# Altium integrated library XMOS.IntLib: 42 symbols (part 1 of 3)
Pins are listed as number, name and electrical type; pins without a type are passive.

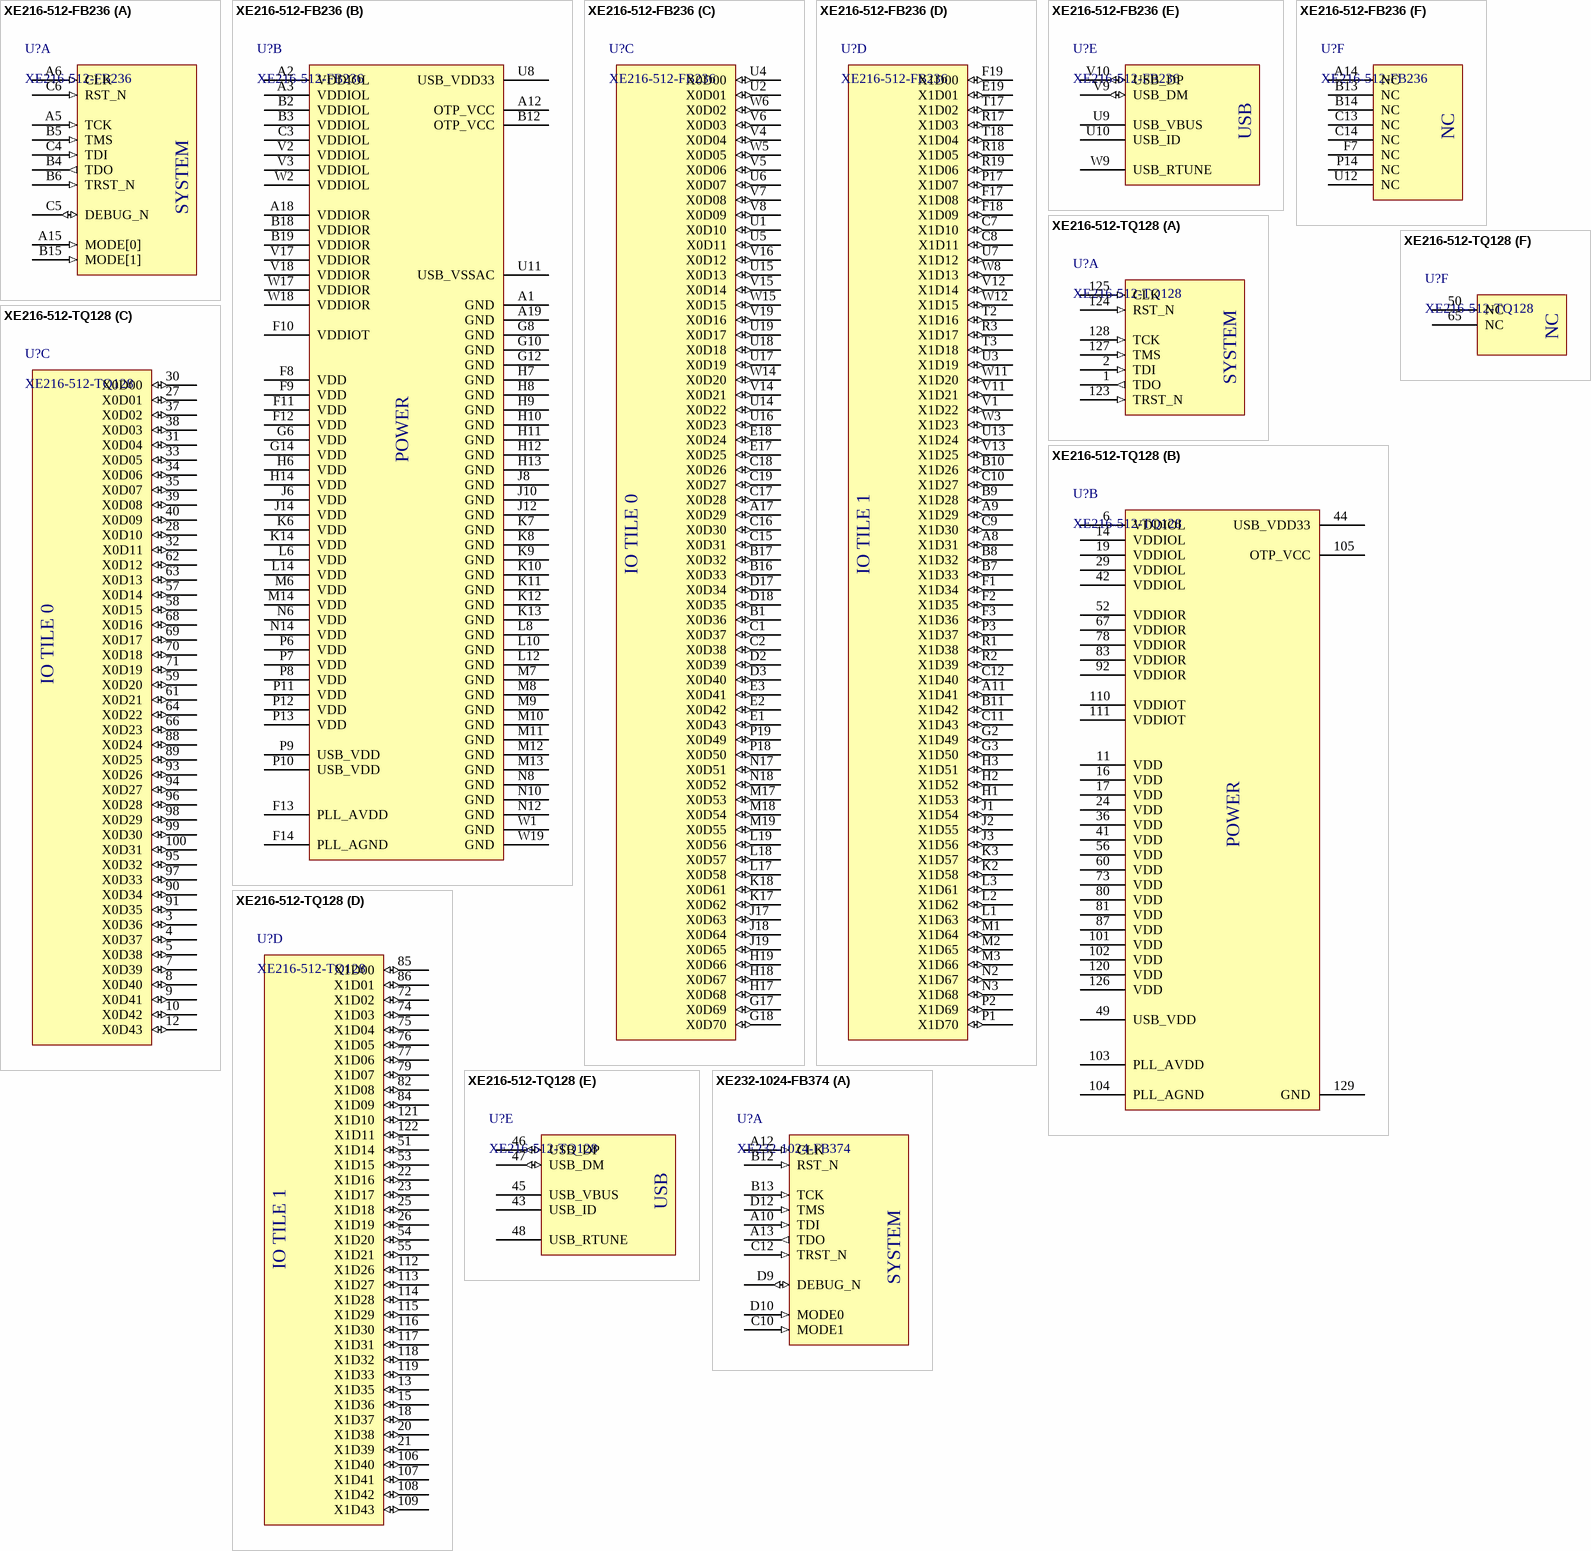
[diagram p0: symbols XE216-512-FB236 to XE232-1024-FB374]

## XE216-512-FB236
designator U?
xCORE Multicore Microcontroller, xCORE-200, USB, RGMII, Dual Tile, 16 Cores, 500MHz, 236BGA; Manufacturer: XMOS; Manufacturer Part Number: XE216-512-FB236; VALUE: XE216-512-FB236
footprint FB236 (BGA, 236-Leads, Body 10.00x10.00mmx1.28mm, Pitch 0.50mm)
part A pins: A5 TCK (in), A6 CLK (in), A15 MODE[0] (in), B4 TDO (out), B5 TMS (in), B6 TRST_N (in), B15 MODE[1] (in), C4 TDI (in), C5 DEBUG_N (io), C6 RST_N (in)
part B pins: A1 GND (power), A2 VDDIOL (power), A3 VDDIOL (power), A12 OTP_VCC (power), A18 VDDIOR (power), A19 GND (power), B2 VDDIOL (power), B3 VDDIOL (power), B12 OTP_VCC (power), B18 VDDIOR (power), B19 VDDIOR (power), C3 VDDIOL (power), F8 VDD (power), F9 VDD (power), F10 VDDIOT (power), F11 VDD (power), F12 VDD (power), F13 PLL_AVDD (power), F14 PLL_AGND (power), G6 VDD (power), G8 GND (power), G10 GND (power), G12 GND (power), G14 VDD (power), H6 VDD (power), H7 GND (power), H8 GND (power), H9 GND (power), H10 GND (power), H11 GND (power), H12 GND (power), H13 GND (power), H14 VDD (power), J6 VDD (power), J8 GND (power), J10 GND (power), J12 GND (power), J14 VDD (power), K6 VDD (power), K7 GND (power), K8 GND (power), K9 GND (power), K10 GND (power), K11 GND (power), K12 GND (power), K13 GND (power), K14 VDD (power), L6 VDD (power), L8 GND (power), L10 GND (power), L12 GND (power), L14 VDD (power), M6 VDD (power), M7 GND (power), M8 GND (power), M9 GND (power), M10 GND (power), M11 GND (power), M12 GND (power), M13 GND (power), M14 VDD (power), N6 VDD (power), N8 GND (power), N10 GND (power), N12 GND (power), N14 VDD (power), P6 VDD (power), P7 VDD (power), P8 VDD (power), P9 USB_VDD (power), P10 USB_VDD (power), P11 VDD (power), P12 VDD (power), P13 VDD (power), U8 USB_VDD33 (power), U11 USB_VSSAC (power), V2 VDDIOL (power), V3 VDDIOL (power), V17 VDDIOR (power), V18 VDDIOR (power), W1 GND (power), W2 VDDIOL (power), W17 VDDIOR (power), W18 VDDIOR (power), W19 GND (power)
part C pins: A17 X0D29 (io), B1 X0D36 (io), B16 X0D33 (io), B17 X0D32 (io), C1 X0D37 (io), C2 X0D38 (io), C15 X0D31 (io), C16 X0D30 (io), C17 X0D28 (io), C18 X0D26 (io), C19 X0D27 (io), D2 X0D39 (io), D3 X0D40 (io), D17 X0D34 (io), D18 X0D35 (io), E1 X0D43 (io), E2 X0D42 (io), E3 X0D41 (io), E17 X0D25 (io), E18 X0D24 (io), G17 X0D69 (io), G18 X0D70 (io), H17 X0D68 (io), H18 X0D67 (io), H19 X0D66 (io), J17 X0D63 (io), J18 X0D64 (io), J19 X0D65 (io), K17 X0D62 (io), K18 X0D61 (io), L17 X0D58 (io), L18 X0D57 (io), L19 X0D56 (io), M17 X0D53 (io), M18 X0D54 (io), M19 X0D55 (io), N17 X0D51 (io), N18 X0D52 (io), P18 X0D50 (io), P19 X0D49 (io), U1 X0D10 (io), U2 X0D01 (io), U4 X0D00 (io), U5 X0D11 (io), U6 X0D07 (io), U14 X0D22 (io), U15 X0D13 (io), U16 X0D23 (io), U17 X0D19 (io), U18 X0D18 (io), U19 X0D17 (io), V4 X0D04 (io), V5 X0D06 (io), V6 X0D03 (io), V7 X0D08 (io), V8 X0D09 (io), V14 X0D21 (io), V15 X0D14 (io), V16 X0D12 (io), V19 X0D16 (io), W5 X0D05 (io), W6 X0D02 (io), W14 X0D20 (io), W15 X0D15 (io)
part D pins: A8 X1D31 (io), A9 X1D29 (io), A11 X1D41 (io), B7 X1D33 (io), B8 X1D32 (io), B9 X1D28 (io), B10 X1D26 (io), B11 X1D42 (io), C7 X1D10 (io), C8 X1D11 (io), C9 X1D30 (io), C10 X1D27 (io), C11 X1D43 (io), C12 X1D40 (io), E19 X1D01 (io), F1 X1D34 (io), F2 X1D35 (io), F3 X1D36 (io), F17 X1D08 (io), F18 X1D09 (io), F19 X1D00 (io), G2 X1D49 (io), G3 X1D50 (io), H1 X1D53 (io), H2 X1D52 (io), H3 X1D51 (io), J1 X1D54 (io), J2 X1D55 (io), J3 X1D56 (io), K2 X1D58 (io), K3 X1D57 (io), L1 X1D63 (io), L2 X1D62 (io), L3 X1D61 (io), M1 X1D64 (io), M2 X1D65 (io), M3 X1D66 (io), N2 X1D67 (io), N3 X1D68 (io), P1 X1D70 (io), P2 X1D69 (io), P3 X1D37 (io), P17 X1D07 (io), R1 X1D38 (io), R2 X1D39 (io), R3 X1D17 (io), R17 X1D03 (io), R18 X1D05 (io), R19 X1D06 (io), T2 X1D16 (io), T3 X1D18 (io), T17 X1D02 (io), T18 X1D04 (io), U3 X1D19 (io), U7 X1D12 (io), U13 X1D24 (io), V1 X1D22 (io), V11 X1D21 (io), V12 X1D14 (io), V13 X1D25 (io), W3 X1D23 (io), W8 X1D13 (io), W11 X1D20 (io), W12 X1D15 (io)
part E pins: U9 USB_VBUS, U10 USB_ID, V9 USB_DM (io), V10 USB_DP (io), W9 USB_RTUNE
part F pins: A14 NC, B13 NC, B14 NC, C13 NC, C14 NC, F7 NC, P14 NC, U12 NC
part A text: SYSTEM
part B text: POWER
part C text: IO TILE 0
part D text: IO TILE 1
part E text: USB

## XE216-512-TQ128
designator U?
xCORE Multicore Microcontroller, xCORE-200, USB, RGMII, Dual Tile, 16 Cores, 500MHz, 128TQFP; Manufacturer: XMOS; Manufacturer Part Number: XE216-512-TQ128; Value: XE216-512-TQ128
footprint TQ128 (TSQFP, 128-Leads, Body 14.00x14.00mm, Pitch 0.40mm, Thermal Pad 5.00x5.00mm, IPC Medium Density)
footprint TQ128-L (TSQFP, 128-Leads, Body 14.00x14.00mm, Pitch 0.40mm, Thermal Pad 5.00x5.00mm, IPC High Density)
footprint TQ128-M (TSQFP, 128-Leads, Body 14.00x14.00mm, Pitch 0.40mm, Thermal Pad 5.00x5.00mm, IPC Low Density)
part A pins: 1 TDO (out), 2 TDI (in), 123 TRST_N (in), 124 RST_N (in), 125 CLK (in), 127 TMS (in), 128 TCK (in)
part B pins: 6 VDDIOL (power), 11 VDD (power), 14 VDDIOL (power), 16 VDD (power), 17 VDD (power), 19 VDDIOL (power), 24 VDD (power), 29 VDDIOL (power), 36 VDD (power), 41 VDD (power), 42 VDDIOL (power), 44 USB_VDD33 (power), 49 USB_VDD (power), 52 VDDIOR (power), 56 VDD (power), 60 VDD (power), 67 VDDIOR (power), 73 VDD (power), 78 VDDIOR (power), 80 VDD (power), 81 VDD (power), 83 VDDIOR (power), 87 VDD (power), 92 VDDIOR (power), 101 VDD (power), 102 VDD (power), 103 PLL_AVDD (power), 104 PLL_AGND (power), 105 OTP_VCC (power), 110 VDDIOT (power), 111 VDDIOT (power), 120 VDD (power), 126 VDD (power), 129 GND (power)
part C pins: 3 X0D36 (io), 4 X0D37 (io), 5 X0D38 (io), 7 X0D39 (io), 8 X0D40 (io), 9 X0D41 (io), 10 X0D42 (io), 12 X0D43 (io), 27 X0D01 (io), 28 X0D10 (io), 30 X0D00 (io), 31 X0D04 (io), 32 X0D11 (io), 33 X0D05 (io), 34 X0D06 (io), 35 X0D07 (io), 37 X0D02 (io), 38 X0D03 (io), 39 X0D08 (io), 40 X0D09 (io), 57 X0D14 (io), 58 X0D15 (io), 59 X0D20 (io), 61 X0D21 (io), 62 X0D12 (io), 63 X0D13 (io), 64 X0D22 (io), 66 X0D23 (io), 68 X0D16 (io), 69 X0D17 (io), 70 X0D18 (io), 71 X0D19 (io), 88 X0D24 (io), 89 X0D25 (io), 90 X0D34 (io), 91 X0D35 (io), 93 X0D26 (io), 94 X0D27 (io), 95 X0D32 (io), 96 X0D28 (io), 97 X0D33 (io), 98 X0D29 (io), 99 X0D30 (io), 100 X0D31 (io)
part D pins: 13 X1D35 (io), 15 X1D36 (io), 18 X1D37 (io), 20 X1D38 (io), 21 X1D39 (io), 22 X1D16 (io), 23 X1D17 (io), 25 X1D18 (io), 26 X1D19 (io), 51 X1D14 (io), 53 X1D15 (io), 54 X1D20 (io), 55 X1D21 (io), 72 X1D02 (io), 74 X1D03 (io), 75 X1D04 (io), 76 X1D05 (io), 77 X1D06 (io), 79 X1D07 (io), 82 X1D08 (io), 84 X1D09 (io), 85 X1D00 (io), 86 X1D01 (io), 106 X1D40 (io), 107 X1D41 (io), 108 X1D42 (io), 109 X1D43 (io), 112 X1D26 (io), 113 X1D27 (io), 114 X1D28 (io), 115 X1D29 (io), 116 X1D30 (io), 117 X1D31 (io), 118 X1D32 (io), 119 X1D33 (io), 121 X1D10 (io), 122 X1D11 (io)
part E pins: 43 USB_ID, 45 USB_VBUS, 46 USB_DP (io), 47 USB_DM (io), 48 USB_RTUNE
part F pins: 50 NC, 65 NC
part A text: SYSTEM
part B text: POWER
part C text: IO TILE 0
part D text: IO TILE 1
part E text: USB

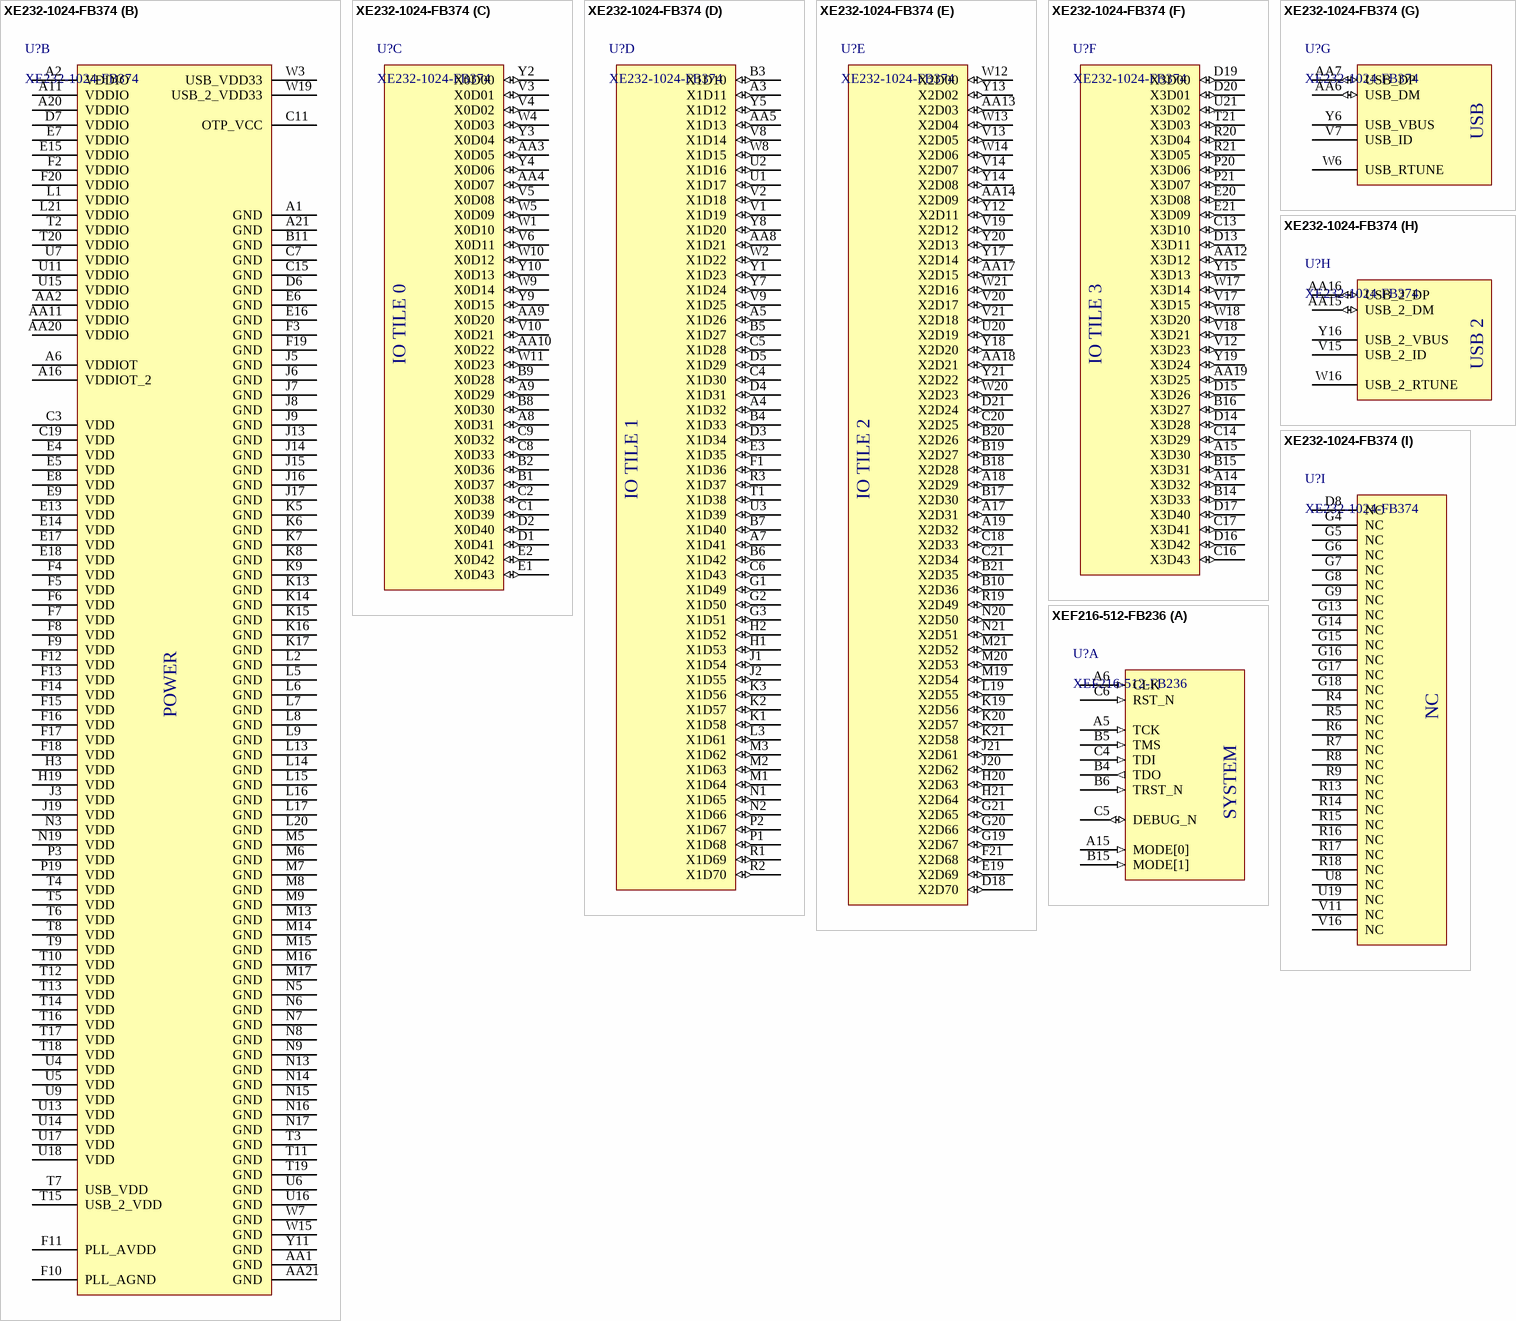
[diagram p1: symbols XE232-1024-FB374 to XEF216-512-FB236]

## XE232-1024-FB374
designator U?
xCORE Multicore Microcontroller, xCORE-200, USB, RGMII, Quad Tile, 32 Cores, 500MHz, 374FBGA; Manufacturer: XMOS; Manufacturer Part Number: XE232-1024-FB374; Value: XE232-1024-FB374
footprint FB374 (BGA, 374-Leads, Body 18.00x17.90mmx1.36mm, Pitch 0.80mm)
part A pins: A10 TDI (in), A12 CLK (in), A13 TDO (out), B12 RST_N (in), B13 TCK (in), C10 MODE1 (in), C12 TRST_N (in), D9 DEBUG_N (io), D10 MODE0 (in), D12 TMS (in)
part B pins: A1 GND (power), A2 VDDIO (power), A6 VDDIOT (power), A11 VDDIO (power), A16 VDDIOT_2 (power), A20 VDDIO (power), A21 GND (power), AA1 GND (power), AA2 VDDIO (power), AA11 VDDIO (power), AA20 VDDIO (power), AA21 GND (power), B11 GND (power), C3 VDD (power), C7 GND (power), C11 OTP_VCC (power), C15 GND (power), C19 VDD (power), D6 GND (power), D7 VDDIO (power), E4 VDD (power), E5 VDD (power), E6 GND (power), E7 VDDIO (power), E8 VDD (power), E9 VDD (power), E13 VDD (power), E14 VDD (power), E15 VDDIO (power), E16 GND (power), E17 VDD (power), E18 VDD (power), F2 VDDIO (power), F3 GND (power), F4 VDD (power), F5 VDD (power), F6 VDD (power), F7 VDD (power), F8 VDD (power), F9 VDD (power), F10 PLL_AGND (power), F11 PLL_AVDD (power), F12 VDD (power), F13 VDD (power), F14 VDD (power), F15 VDD (power), F16 VDD (power), F17 VDD (power), F18 VDD (power), F19 GND (power), F20 VDDIO (power), H3 VDD (power), H19 VDD (power), J3 VDD (power), J5 GND (power), J6 GND (power), J7 GND (power), J8 GND (power), J9 GND (power), J13 GND (power), J14 GND (power), J15 GND (power), J16 GND (power), J17 GND (power), J19 VDD (power), K5 GND (power), K6 GND (power), K7 GND (power), K8 GND (power), K9 GND (power), K13 GND (power), K14 GND (power), K15 GND (power), K16 GND (power), K17 GND (power), L1 VDDIO (power), L2 GND (power), L5 GND (power), L6 GND (power), L7 GND (power), L8 GND (power), L9 GND (power), L13 GND (power), L14 GND (power), L15 GND (power), L16 GND (power), L17 GND (power), L20 GND (power), L21 VDDIO (power), M5 GND (power), M6 GND (power), M7 GND (power), M8 GND (power), M9 GND (power), M13 GND (power), M14 GND (power), M15 GND (power), M16 GND (power), M17 GND (power), N3 VDD (power), N5 GND (power), N6 GND (power), N7 GND (power), N8 GND (power), N9 GND (power), N13 GND (power), N14 GND (power), N15 GND (power), N16 GND (power), N17 GND (power), N19 VDD (power), P3 VDD (power), P19 VDD (power), T2 VDDIO (power), T3 GND (power), T4 VDD (power), T5 VDD (power), T6 VDD (power), T7 USB_VDD (power), T8 VDD (power), T9 VDD (power), T10 VDD (power), T11 GND (power), T12 VDD (power), T13 VDD (power), T14 VDD (power), T15 USB_2_VDD (power), T16 VDD (power), T17 VDD (power), T18 VDD (power), T19 GND (power), T20 VDDIO (power), U4 VDD (power), U5 VDD (power), U6 GND (power), U7 VDDIO (power), U9 VDD (power), U11 VDDIO (power), U13 VDD (power), U14 VDD (power), U15 VDDIO (power), U16 GND (power), U17 VDD (power), U18 VDD (power), W3 USB_VDD33 (power), W7 GND (power), W15 GND (power), W19 USB_2_VDD33 (power), Y11 GND (power)
part C pins: A8 X0D31 (io), A9 X0D29 (io), AA3 X0D05 (io), AA4 X0D07 (io), AA9 X0D20 (io), AA10 X0D22 (io), B1 X0D37 (io), B2 X0D36 (io), B8 X0D30 (io), B9 X0D28 (io), C1 X0D39 (io), C2 X0D38 (io), C8 X0D33 (io), C9 X0D32 (io), D1 X0D41 (io), D2 X0D40 (io), E1 X0D43 (io), E2 X0D42 (io), V3 X0D01 (io), V4 X0D02 (io), V5 X0D08 (io), V6 X0D11 (io), V10 X0D21 (io), W1 X0D10 (io), W4 X0D03 (io), W5 X0D09 (io), W9 X0D14 (io), W10 X0D12 (io), W11 X0D23 (io), Y2 X0D00 (io), Y3 X0D04 (io), Y4 X0D06 (io), Y9 X0D15 (io), Y10 X0D13 (io)
part D pins: A3 X1D11 (io), A4 X1D32 (io), A5 X1D26 (io), A7 X1D41 (io), AA5 X1D13 (io), AA8 X1D21 (io), B3 X1D10 (io), B4 X1D33 (io), B5 X1D27 (io), B6 X1D42 (io), B7 X1D40 (io), C4 X1D30 (io), C5 X1D28 (io), C6 X1D43 (io), D3 X1D34 (io), D4 X1D31 (io), D5 X1D29 (io), E3 X1D35 (io), F1 X1D36 (io), G1 X1D49 (io), G2 X1D50 (io), G3 X1D51 (io), H1 X1D53 (io), H2 X1D52 (io), J1 X1D54 (io), J2 X1D55 (io), K1 X1D58 (io), K2 X1D57 (io), K3 X1D56 (io), L3 X1D61 (io), M1 X1D64 (io), M2 X1D63 (io), M3 X1D62 (io), N1 X1D65 (io), N2 X1D66 (io), P1 X1D68 (io), P2 X1D67 (io), R1 X1D69 (io), R2 X1D70 (io), R3 X1D37 (io), T1 X1D38 (io), U1 X1D17 (io), U2 X1D16 (io), U3 X1D39 (io), V1 X1D19 (io), V2 X1D18 (io), V8 X1D14 (io), V9 X1D25 (io), W2 X1D22 (io), W8 X1D15 (io), Y1 X1D23 (io), Y5 X1D12 (io), Y7 X1D24 (io), Y8 X1D20 (io)
part E pins: A17 X2D31 (io), A18 X2D29 (io), A19 X2D32 (io), AA13 X2D03 (io), AA14 X2D09 (io), AA17 X2D15 (io), AA18 X2D21 (io), B10 X2D36 (io), B17 X2D30 (io), B18 X2D28 (io), B19 X2D27 (io), B20 X2D26 (io), B21 X2D35 (io), C18 X2D33 (io), C20 X2D25 (io), C21 X2D34 (io), D18 X2D70 (io), D21 X2D24 (io), E19 X2D69 (io), F21 X2D68 (io), G19 X2D67 (io), G20 X2D66 (io), G21 X2D65 (io), H20 X2D63 (io), H21 X2D64 (io), J20 X2D62 (io), J21 X2D61 (io), K19 X2D56 (io), K20 X2D57 (io), K21 X2D58 (io), L19 X2D55 (io), M19 X2D54 (io), M20 X2D53 (io), M21 X2D52 (io), N20 X2D50 (io), N21 X2D51 (io), R19 X2D49 (io), U20 X2D19 (io), V13 X2D05 (io), V14 X2D07 (io), V19 X2D12 (io), V20 X2D17 (io), V21 X2D18 (io), W12 X2D00 (io), W13 X2D04 (io), W14 X2D06 (io), W20 X2D23 (io), W21 X2D16 (io), Y12 X2D11 (io), Y13 X2D02 (io), Y14 X2D08 (io), Y17 X2D14 (io), Y18 X2D20 (io), Y20 X2D13 (io), Y21 X2D22 (io)
part F pins: A14 X3D32 (io), A15 X3D30 (io), AA12 X3D12 (io), AA19 X3D25 (io), B14 X3D33 (io), B15 X3D31 (io), B16 X3D27 (io), C13 X3D10 (io), C14 X3D29 (io), C16 X3D43 (io), C17 X3D41 (io), D13 X3D11 (io), D14 X3D28 (io), D15 X3D26 (io), D16 X3D42 (io), D17 X3D40 (io), D19 X3D00 (io), D20 X3D01 (io), E20 X3D08 (io), E21 X3D09 (io), P20 X3D06 (io), P21 X3D07 (io), R20 X3D04 (io), R21 X3D05 (io), T21 X3D03 (io), U21 X3D02 (io), V12 X3D23 (io), V17 X3D15 (io), V18 X3D21 (io), W17 X3D14 (io), W18 X3D20 (io), Y15 X3D13 (io), Y19 X3D24 (io)
part G pins: AA6 USB_DM (io), AA7 USB_DP (io), V7 USB_ID, W6 USB_RTUNE, Y6 USB_VBUS
part H pins: AA15 USB_2_DM (io), AA16 USB_2_DP (io), V15 USB_2_ID, W16 USB_2_RTUNE, Y16 USB_2_VBUS
part I pins: D8 NC, G4 NC, G5 NC, G6 NC, G7 NC, G8 NC, G9 NC, G13 NC, G14 NC, G15 NC, G16 NC, G17 NC, G18 NC, R4 NC, R5 NC, R6 NC, R7 NC, R8 NC, R9 NC, R13 NC, R14 NC, R15 NC, R16 NC, R17 NC, R18 NC, U8 NC, U19 NC, V11 NC, V16 NC
part A text: SYSTEM
part B text: POWER
part C text: IO TILE 0
part D text: IO TILE 1
part E text: IO TILE 2
part F text: IO TILE 3
part G text: USB
part H text: USB 2

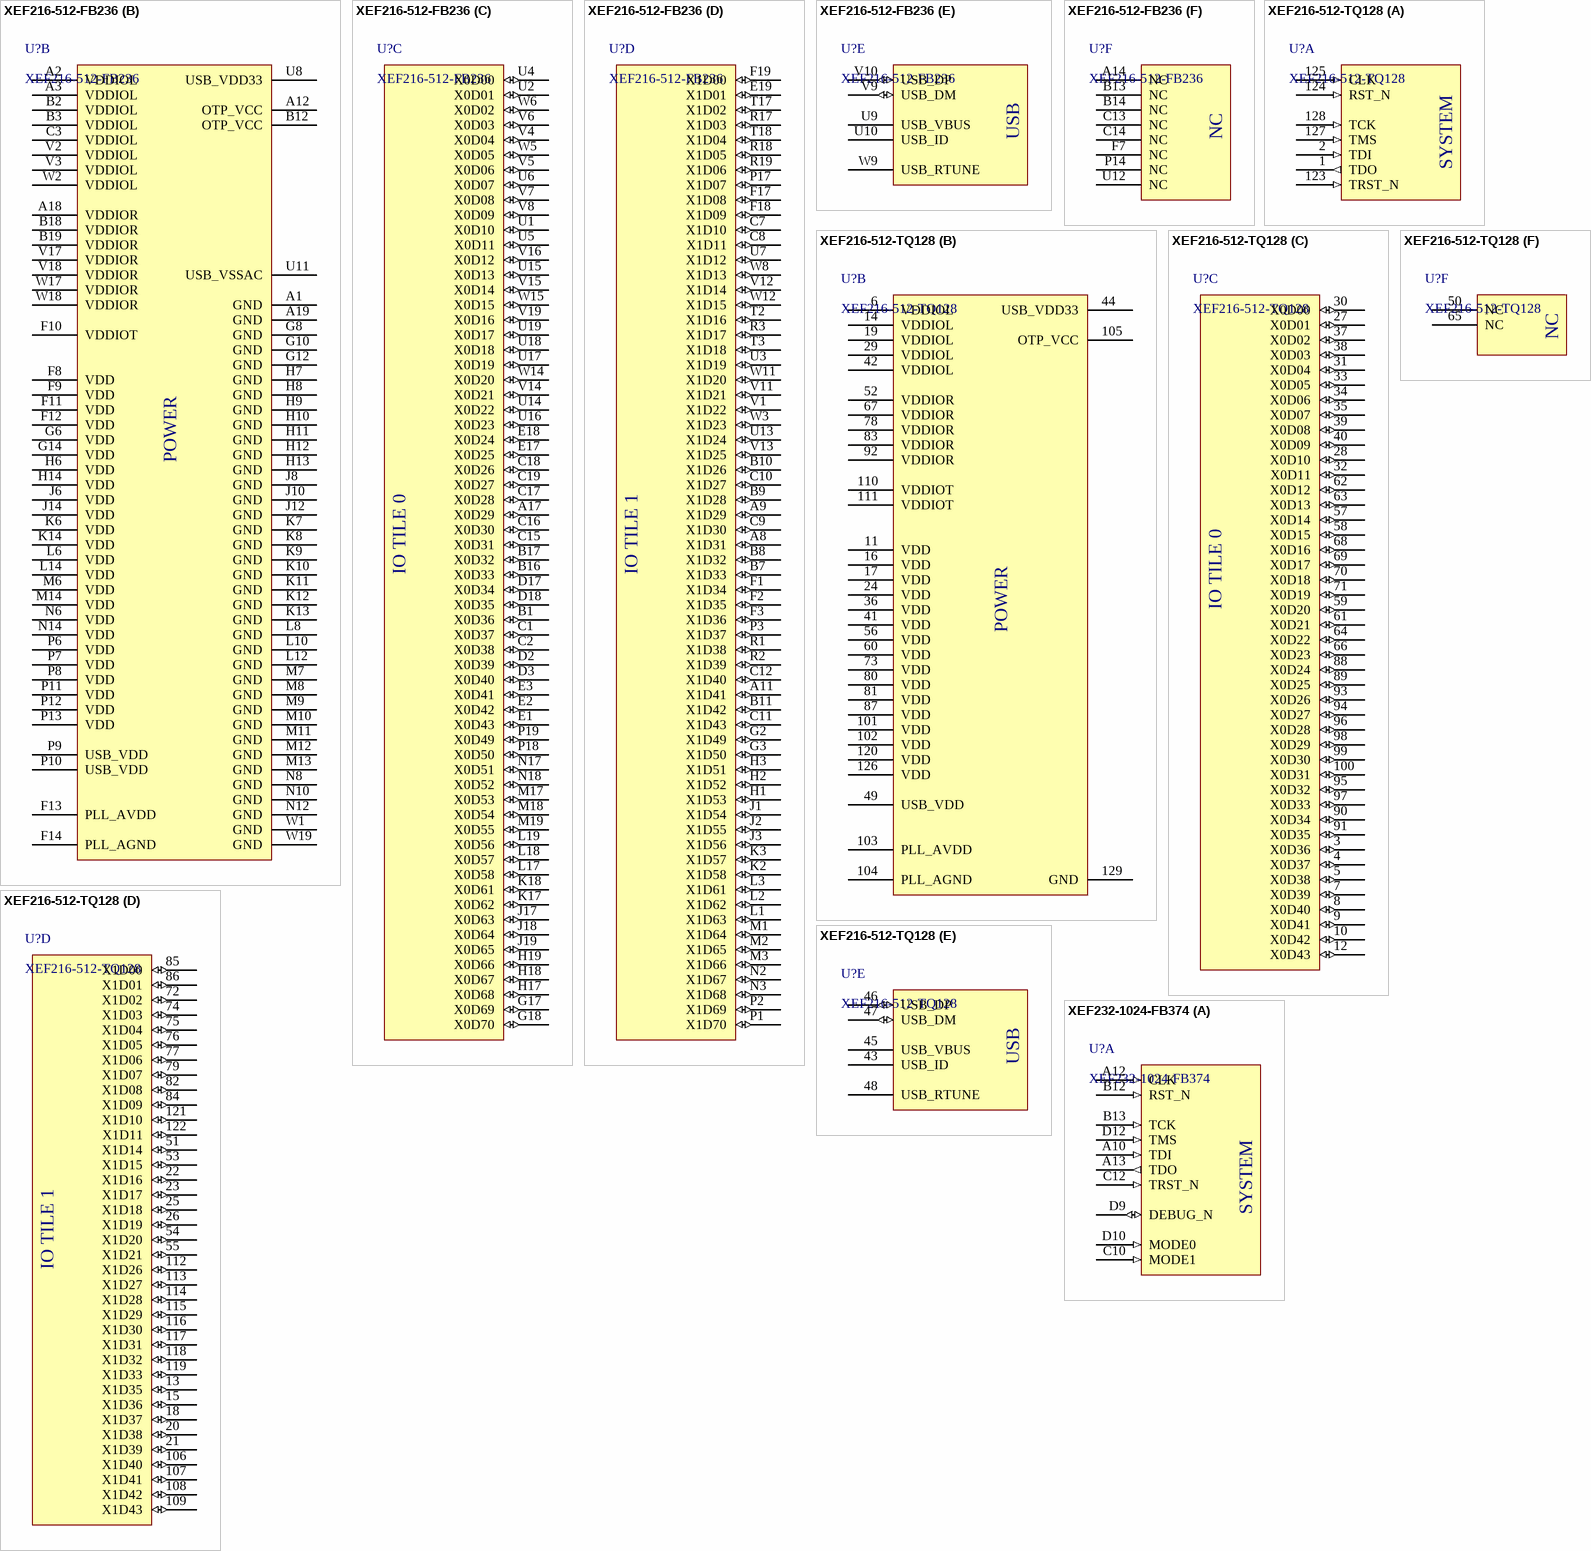
[diagram p2: symbols XEF216-512-FB236 to XEF232-1024-FB374]

## XEF216-512-FB236
designator U?
xCORE Multicore Microcontroller, xCORE-200, USB, RGMII, Dual Tile, 16 Cores, 500MHz, 236BGA; Manufacturer: XMOS; Manufacturer Part Number: XEF216-512-FB236; VALUE: XEF216-512-FB236
footprint FB236 (BGA, 236-Leads, Body 10.00x10.00mmx1.28mm, Pitch 0.50mm)
part A pins: A5 TCK (in), A6 CLK (in), A15 MODE[0] (in), B4 TDO (out), B5 TMS (in), B6 TRST_N (in), B15 MODE[1] (in), C4 TDI (in), C5 DEBUG_N (io), C6 RST_N (in)
part B pins: A1 GND (power), A2 VDDIOL (power), A3 VDDIOL (power), A12 OTP_VCC (power), A18 VDDIOR (power), A19 GND (power), B2 VDDIOL (power), B3 VDDIOL (power), B12 OTP_VCC (power), B18 VDDIOR (power), B19 VDDIOR (power), C3 VDDIOL (power), F8 VDD (power), F9 VDD (power), F10 VDDIOT (power), F11 VDD (power), F12 VDD (power), F13 PLL_AVDD (power), F14 PLL_AGND (power), G6 VDD (power), G8 GND (power), G10 GND (power), G12 GND (power), G14 VDD (power), H6 VDD (power), H7 GND (power), H8 GND (power), H9 GND (power), H10 GND (power), H11 GND (power), H12 GND (power), H13 GND (power), H14 VDD (power), J6 VDD (power), J8 GND (power), J10 GND (power), J12 GND (power), J14 VDD (power), K6 VDD (power), K7 GND (power), K8 GND (power), K9 GND (power), K10 GND (power), K11 GND (power), K12 GND (power), K13 GND (power), K14 VDD (power), L6 VDD (power), L8 GND (power), L10 GND (power), L12 GND (power), L14 VDD (power), M6 VDD (power), M7 GND (power), M8 GND (power), M9 GND (power), M10 GND (power), M11 GND (power), M12 GND (power), M13 GND (power), M14 VDD (power), N6 VDD (power), N8 GND (power), N10 GND (power), N12 GND (power), N14 VDD (power), P6 VDD (power), P7 VDD (power), P8 VDD (power), P9 USB_VDD (power), P10 USB_VDD (power), P11 VDD (power), P12 VDD (power), P13 VDD (power), U8 USB_VDD33 (power), U11 USB_VSSAC (power), V2 VDDIOL (power), V3 VDDIOL (power), V17 VDDIOR (power), V18 VDDIOR (power), W1 GND (power), W2 VDDIOL (power), W17 VDDIOR (power), W18 VDDIOR (power), W19 GND (power)
part C pins: A17 X0D29 (io), B1 X0D36 (io), B16 X0D33 (io), B17 X0D32 (io), C1 X0D37 (io), C2 X0D38 (io), C15 X0D31 (io), C16 X0D30 (io), C17 X0D28 (io), C18 X0D26 (io), C19 X0D27 (io), D2 X0D39 (io), D3 X0D40 (io), D17 X0D34 (io), D18 X0D35 (io), E1 X0D43 (io), E2 X0D42 (io), E3 X0D41 (io), E17 X0D25 (io), E18 X0D24 (io), G17 X0D69 (io), G18 X0D70 (io), H17 X0D68 (io), H18 X0D67 (io), H19 X0D66 (io), J17 X0D63 (io), J18 X0D64 (io), J19 X0D65 (io), K17 X0D62 (io), K18 X0D61 (io), L17 X0D58 (io), L18 X0D57 (io), L19 X0D56 (io), M17 X0D53 (io), M18 X0D54 (io), M19 X0D55 (io), N17 X0D51 (io), N18 X0D52 (io), P18 X0D50 (io), P19 X0D49 (io), U1 X0D10 (io), U2 X0D01 (io), U4 X0D00 (io), U5 X0D11 (io), U6 X0D07 (io), U14 X0D22 (io), U15 X0D13 (io), U16 X0D23 (io), U17 X0D19 (io), U18 X0D18 (io), U19 X0D17 (io), V4 X0D04 (io), V5 X0D06 (io), V6 X0D03 (io), V7 X0D08 (io), V8 X0D09 (io), V14 X0D21 (io), V15 X0D14 (io), V16 X0D12 (io), V19 X0D16 (io), W5 X0D05 (io), W6 X0D02 (io), W14 X0D20 (io), W15 X0D15 (io)
part D pins: A8 X1D31 (io), A9 X1D29 (io), A11 X1D41 (io), B7 X1D33 (io), B8 X1D32 (io), B9 X1D28 (io), B10 X1D26 (io), B11 X1D42 (io), C7 X1D10 (io), C8 X1D11 (io), C9 X1D30 (io), C10 X1D27 (io), C11 X1D43 (io), C12 X1D40 (io), E19 X1D01 (io), F1 X1D34 (io), F2 X1D35 (io), F3 X1D36 (io), F17 X1D08 (io), F18 X1D09 (io), F19 X1D00 (io), G2 X1D49 (io), G3 X1D50 (io), H1 X1D53 (io), H2 X1D52 (io), H3 X1D51 (io), J1 X1D54 (io), J2 X1D55 (io), J3 X1D56 (io), K2 X1D58 (io), K3 X1D57 (io), L1 X1D63 (io), L2 X1D62 (io), L3 X1D61 (io), M1 X1D64 (io), M2 X1D65 (io), M3 X1D66 (io), N2 X1D67 (io), N3 X1D68 (io), P1 X1D70 (io), P2 X1D69 (io), P3 X1D37 (io), P17 X1D07 (io), R1 X1D38 (io), R2 X1D39 (io), R3 X1D17 (io), R17 X1D03 (io), R18 X1D05 (io), R19 X1D06 (io), T2 X1D16 (io), T3 X1D18 (io), T17 X1D02 (io), T18 X1D04 (io), U3 X1D19 (io), U7 X1D12 (io), U13 X1D24 (io), V1 X1D22 (io), V11 X1D21 (io), V12 X1D14 (io), V13 X1D25 (io), W3 X1D23 (io), W8 X1D13 (io), W11 X1D20 (io), W12 X1D15 (io)
part E pins: U9 USB_VBUS, U10 USB_ID, V9 USB_DM (io), V10 USB_DP (io), W9 USB_RTUNE
part F pins: A14 NC, B13 NC, B14 NC, C13 NC, C14 NC, F7 NC, P14 NC, U12 NC
part A text: SYSTEM
part B text: POWER
part C text: IO TILE 0
part D text: IO TILE 1
part E text: USB

## XEF216-512-TQ128
designator U?
xCORE Multicore Microcontroller, xCORE-200, USB, RGMII, Dual Tile, 16 Cores, 500MHz, 128TQFP; Manufacturer: XMOS; Manufacturer Part Number: XEF216-512-TQ128; Value: XEF216-512-TQ128
footprint TQ128 (TSQFP, 128-Leads, Body 14.00x14.00mm, Pitch 0.40mm, Thermal Pad 5.00x5.00mm, IPC Medium Density)
footprint TQ128-L (TSQFP, 128-Leads, Body 14.00x14.00mm, Pitch 0.40mm, Thermal Pad 5.00x5.00mm, IPC High Density)
footprint TQ128-M (TSQFP, 128-Leads, Body 14.00x14.00mm, Pitch 0.40mm, Thermal Pad 5.00x5.00mm, IPC Low Density)
part A pins: 1 TDO (out), 2 TDI (in), 123 TRST_N (in), 124 RST_N (in), 125 CLK (in), 127 TMS (in), 128 TCK (in)
part B pins: 6 VDDIOL (power), 11 VDD (power), 14 VDDIOL (power), 16 VDD (power), 17 VDD (power), 19 VDDIOL (power), 24 VDD (power), 29 VDDIOL (power), 36 VDD (power), 41 VDD (power), 42 VDDIOL (power), 44 USB_VDD33 (power), 49 USB_VDD (power), 52 VDDIOR (power), 56 VDD (power), 60 VDD (power), 67 VDDIOR (power), 73 VDD (power), 78 VDDIOR (power), 80 VDD (power), 81 VDD (power), 83 VDDIOR (power), 87 VDD (power), 92 VDDIOR (power), 101 VDD (power), 102 VDD (power), 103 PLL_AVDD (power), 104 PLL_AGND (power), 105 OTP_VCC (power), 110 VDDIOT (power), 111 VDDIOT (power), 120 VDD (power), 126 VDD (power), 129 GND (power)
part C pins: 3 X0D36 (io), 4 X0D37 (io), 5 X0D38 (io), 7 X0D39 (io), 8 X0D40 (io), 9 X0D41 (io), 10 X0D42 (io), 12 X0D43 (io), 27 X0D01 (io), 28 X0D10 (io), 30 X0D00 (io), 31 X0D04 (io), 32 X0D11 (io), 33 X0D05 (io), 34 X0D06 (io), 35 X0D07 (io), 37 X0D02 (io), 38 X0D03 (io), 39 X0D08 (io), 40 X0D09 (io), 57 X0D14 (io), 58 X0D15 (io), 59 X0D20 (io), 61 X0D21 (io), 62 X0D12 (io), 63 X0D13 (io), 64 X0D22 (io), 66 X0D23 (io), 68 X0D16 (io), 69 X0D17 (io), 70 X0D18 (io), 71 X0D19 (io), 88 X0D24 (io), 89 X0D25 (io), 90 X0D34 (io), 91 X0D35 (io), 93 X0D26 (io), 94 X0D27 (io), 95 X0D32 (io), 96 X0D28 (io), 97 X0D33 (io), 98 X0D29 (io), 99 X0D30 (io), 100 X0D31 (io)
part D pins: 13 X1D35 (io), 15 X1D36 (io), 18 X1D37 (io), 20 X1D38 (io), 21 X1D39 (io), 22 X1D16 (io), 23 X1D17 (io), 25 X1D18 (io), 26 X1D19 (io), 51 X1D14 (io), 53 X1D15 (io), 54 X1D20 (io), 55 X1D21 (io), 72 X1D02 (io), 74 X1D03 (io), 75 X1D04 (io), 76 X1D05 (io), 77 X1D06 (io), 79 X1D07 (io), 82 X1D08 (io), 84 X1D09 (io), 85 X1D00 (io), 86 X1D01 (io), 106 X1D40 (io), 107 X1D41 (io), 108 X1D42 (io), 109 X1D43 (io), 112 X1D26 (io), 113 X1D27 (io), 114 X1D28 (io), 115 X1D29 (io), 116 X1D30 (io), 117 X1D31 (io), 118 X1D32 (io), 119 X1D33 (io), 121 X1D10 (io), 122 X1D11 (io)
part E pins: 43 USB_ID, 45 USB_VBUS, 46 USB_DP (io), 47 USB_DM (io), 48 USB_RTUNE
part F pins: 50 NC, 65 NC
part A text: SYSTEM
part B text: POWER
part C text: IO TILE 0
part D text: IO TILE 1
part E text: USB

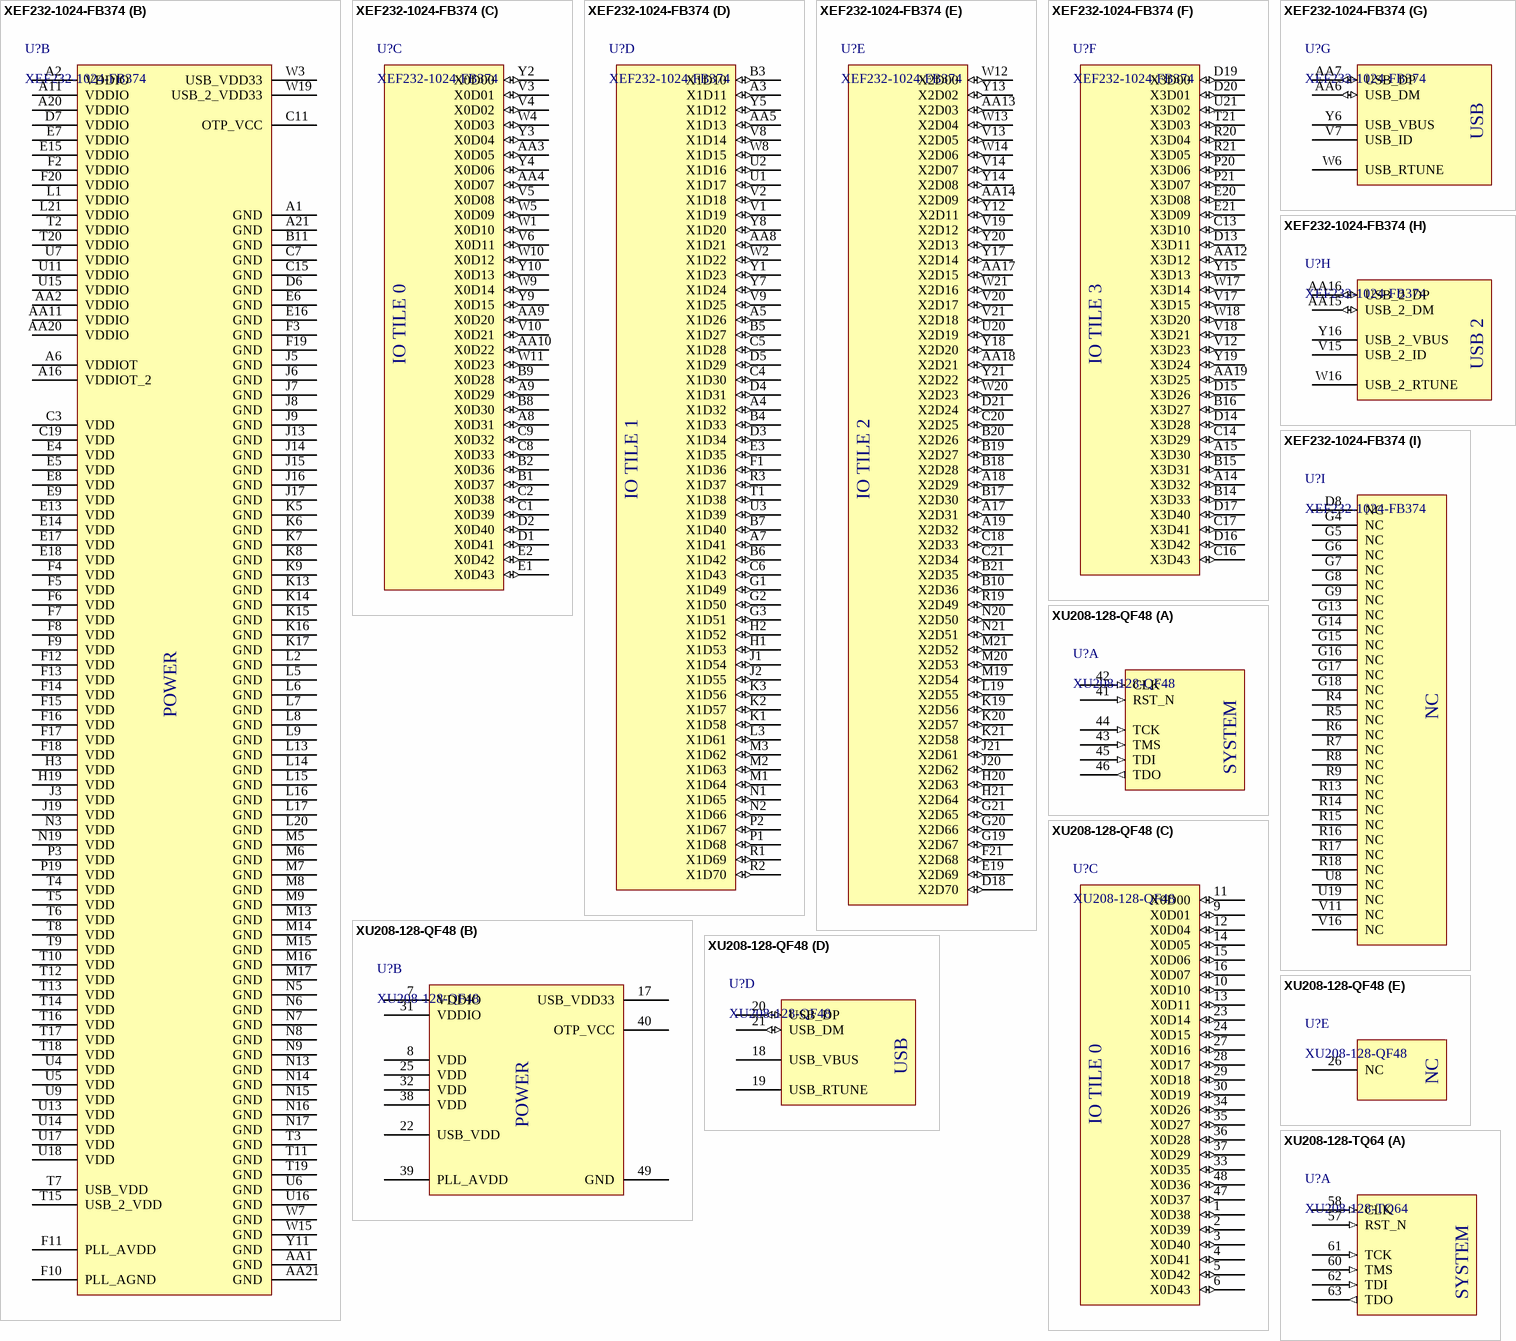
[diagram p3: symbols XEF232-1024-FB374 to XU208-128-TQ64]

## XEF232-1024-FB374
designator U?
xCORE Multicore Microcontroller, xCORE-200, USB, RGMII, Quad Tile, 32 Cores, 500MHz, 374FBGA; Manufacturer: XMOS; Manufacturer Part Number: XEF232-1024-FB374; Value: XEF232-1024-FB374
footprint FB374 (BGA, 374-Leads, Body 18.00x17.90mmx1.36mm, Pitch 0.80mm)
part A pins: A10 TDI (in), A12 CLK (in), A13 TDO (out), B12 RST_N (in), B13 TCK (in), C10 MODE1 (in), C12 TRST_N (in), D9 DEBUG_N (io), D10 MODE0 (in), D12 TMS (in)
part B pins: A1 GND (power), A2 VDDIO (power), A6 VDDIOT (power), A11 VDDIO (power), A16 VDDIOT_2 (power), A20 VDDIO (power), A21 GND (power), AA1 GND (power), AA2 VDDIO (power), AA11 VDDIO (power), AA20 VDDIO (power), AA21 GND (power), B11 GND (power), C3 VDD (power), C7 GND (power), C11 OTP_VCC (power), C15 GND (power), C19 VDD (power), D6 GND (power), D7 VDDIO (power), E4 VDD (power), E5 VDD (power), E6 GND (power), E7 VDDIO (power), E8 VDD (power), E9 VDD (power), E13 VDD (power), E14 VDD (power), E15 VDDIO (power), E16 GND (power), E17 VDD (power), E18 VDD (power), F2 VDDIO (power), F3 GND (power), F4 VDD (power), F5 VDD (power), F6 VDD (power), F7 VDD (power), F8 VDD (power), F9 VDD (power), F10 PLL_AGND (power), F11 PLL_AVDD (power), F12 VDD (power), F13 VDD (power), F14 VDD (power), F15 VDD (power), F16 VDD (power), F17 VDD (power), F18 VDD (power), F19 GND (power), F20 VDDIO (power), H3 VDD (power), H19 VDD (power), J3 VDD (power), J5 GND (power), J6 GND (power), J7 GND (power), J8 GND (power), J9 GND (power), J13 GND (power), J14 GND (power), J15 GND (power), J16 GND (power), J17 GND (power), J19 VDD (power), K5 GND (power), K6 GND (power), K7 GND (power), K8 GND (power), K9 GND (power), K13 GND (power), K14 GND (power), K15 GND (power), K16 GND (power), K17 GND (power), L1 VDDIO (power), L2 GND (power), L5 GND (power), L6 GND (power), L7 GND (power), L8 GND (power), L9 GND (power), L13 GND (power), L14 GND (power), L15 GND (power), L16 GND (power), L17 GND (power), L20 GND (power), L21 VDDIO (power), M5 GND (power), M6 GND (power), M7 GND (power), M8 GND (power), M9 GND (power), M13 GND (power), M14 GND (power), M15 GND (power), M16 GND (power), M17 GND (power), N3 VDD (power), N5 GND (power), N6 GND (power), N7 GND (power), N8 GND (power), N9 GND (power), N13 GND (power), N14 GND (power), N15 GND (power), N16 GND (power), N17 GND (power), N19 VDD (power), P3 VDD (power), P19 VDD (power), T2 VDDIO (power), T3 GND (power), T4 VDD (power), T5 VDD (power), T6 VDD (power), T7 USB_VDD (power), T8 VDD (power), T9 VDD (power), T10 VDD (power), T11 GND (power), T12 VDD (power), T13 VDD (power), T14 VDD (power), T15 USB_2_VDD (power), T16 VDD (power), T17 VDD (power), T18 VDD (power), T19 GND (power), T20 VDDIO (power), U4 VDD (power), U5 VDD (power), U6 GND (power), U7 VDDIO (power), U9 VDD (power), U11 VDDIO (power), U13 VDD (power), U14 VDD (power), U15 VDDIO (power), U16 GND (power), U17 VDD (power), U18 VDD (power), W3 USB_VDD33 (power), W7 GND (power), W15 GND (power), W19 USB_2_VDD33 (power), Y11 GND (power)
part C pins: A8 X0D31 (io), A9 X0D29 (io), AA3 X0D05 (io), AA4 X0D07 (io), AA9 X0D20 (io), AA10 X0D22 (io), B1 X0D37 (io), B2 X0D36 (io), B8 X0D30 (io), B9 X0D28 (io), C1 X0D39 (io), C2 X0D38 (io), C8 X0D33 (io), C9 X0D32 (io), D1 X0D41 (io), D2 X0D40 (io), E1 X0D43 (io), E2 X0D42 (io), V3 X0D01 (io), V4 X0D02 (io), V5 X0D08 (io), V6 X0D11 (io), V10 X0D21 (io), W1 X0D10 (io), W4 X0D03 (io), W5 X0D09 (io), W9 X0D14 (io), W10 X0D12 (io), W11 X0D23 (io), Y2 X0D00 (io), Y3 X0D04 (io), Y4 X0D06 (io), Y9 X0D15 (io), Y10 X0D13 (io)
part D pins: A3 X1D11 (io), A4 X1D32 (io), A5 X1D26 (io), A7 X1D41 (io), AA5 X1D13 (io), AA8 X1D21 (io), B3 X1D10 (io), B4 X1D33 (io), B5 X1D27 (io), B6 X1D42 (io), B7 X1D40 (io), C4 X1D30 (io), C5 X1D28 (io), C6 X1D43 (io), D3 X1D34 (io), D4 X1D31 (io), D5 X1D29 (io), E3 X1D35 (io), F1 X1D36 (io), G1 X1D49 (io), G2 X1D50 (io), G3 X1D51 (io), H1 X1D53 (io), H2 X1D52 (io), J1 X1D54 (io), J2 X1D55 (io), K1 X1D58 (io), K2 X1D57 (io), K3 X1D56 (io), L3 X1D61 (io), M1 X1D64 (io), M2 X1D63 (io), M3 X1D62 (io), N1 X1D65 (io), N2 X1D66 (io), P1 X1D68 (io), P2 X1D67 (io), R1 X1D69 (io), R2 X1D70 (io), R3 X1D37 (io), T1 X1D38 (io), U1 X1D17 (io), U2 X1D16 (io), U3 X1D39 (io), V1 X1D19 (io), V2 X1D18 (io), V8 X1D14 (io), V9 X1D25 (io), W2 X1D22 (io), W8 X1D15 (io), Y1 X1D23 (io), Y5 X1D12 (io), Y7 X1D24 (io), Y8 X1D20 (io)
part E pins: A17 X2D31 (io), A18 X2D29 (io), A19 X2D32 (io), AA13 X2D03 (io), AA14 X2D09 (io), AA17 X2D15 (io), AA18 X2D21 (io), B10 X2D36 (io), B17 X2D30 (io), B18 X2D28 (io), B19 X2D27 (io), B20 X2D26 (io), B21 X2D35 (io), C18 X2D33 (io), C20 X2D25 (io), C21 X2D34 (io), D18 X2D70 (io), D21 X2D24 (io), E19 X2D69 (io), F21 X2D68 (io), G19 X2D67 (io), G20 X2D66 (io), G21 X2D65 (io), H20 X2D63 (io), H21 X2D64 (io), J20 X2D62 (io), J21 X2D61 (io), K19 X2D56 (io), K20 X2D57 (io), K21 X2D58 (io), L19 X2D55 (io), M19 X2D54 (io), M20 X2D53 (io), M21 X2D52 (io), N20 X2D50 (io), N21 X2D51 (io), R19 X2D49 (io), U20 X2D19 (io), V13 X2D05 (io), V14 X2D07 (io), V19 X2D12 (io), V20 X2D17 (io), V21 X2D18 (io), W12 X2D00 (io), W13 X2D04 (io), W14 X2D06 (io), W20 X2D23 (io), W21 X2D16 (io), Y12 X2D11 (io), Y13 X2D02 (io), Y14 X2D08 (io), Y17 X2D14 (io), Y18 X2D20 (io), Y20 X2D13 (io), Y21 X2D22 (io)
part F pins: A14 X3D32 (io), A15 X3D30 (io), AA12 X3D12 (io), AA19 X3D25 (io), B14 X3D33 (io), B15 X3D31 (io), B16 X3D27 (io), C13 X3D10 (io), C14 X3D29 (io), C16 X3D43 (io), C17 X3D41 (io), D13 X3D11 (io), D14 X3D28 (io), D15 X3D26 (io), D16 X3D42 (io), D17 X3D40 (io), D19 X3D00 (io), D20 X3D01 (io), E20 X3D08 (io), E21 X3D09 (io), P20 X3D06 (io), P21 X3D07 (io), R20 X3D04 (io), R21 X3D05 (io), T21 X3D03 (io), U21 X3D02 (io), V12 X3D23 (io), V17 X3D15 (io), V18 X3D21 (io), W17 X3D14 (io), W18 X3D20 (io), Y15 X3D13 (io), Y19 X3D24 (io)
part G pins: AA6 USB_DM (io), AA7 USB_DP (io), V7 USB_ID, W6 USB_RTUNE, Y6 USB_VBUS
part H pins: AA15 USB_2_DM (io), AA16 USB_2_DP (io), V15 USB_2_ID, W16 USB_2_RTUNE, Y16 USB_2_VBUS
part I pins: D8 NC, G4 NC, G5 NC, G6 NC, G7 NC, G8 NC, G9 NC, G13 NC, G14 NC, G15 NC, G16 NC, G17 NC, G18 NC, R4 NC, R5 NC, R6 NC, R7 NC, R8 NC, R9 NC, R13 NC, R14 NC, R15 NC, R16 NC, R17 NC, R18 NC, U8 NC, U19 NC, V11 NC, V16 NC
part A text: SYSTEM
part B text: POWER
part C text: IO TILE 0
part D text: IO TILE 1
part E text: IO TILE 2
part F text: IO TILE 3
part G text: USB
part H text: USB 2

## XU208-128-QF48
designator U?
xCORE Multicore Microcontroller, xCORE-200, USB, Single Tile, 8 Cores, 500MHz, 48QFN; Manufacturer: XMOS; Manufacturer Part Number: XU208-128-QF48; Value: XU208-128-QF48
footprint QF48 (QFN, 48-Leads, Body 6.00x6.00mm, Pitch 0.40mm, Thermal Pad 4.50x4.50mm, IPC Medium Density)
footprint QF48-L (QFN, 48-Leads, Body 6.00x6.00mm, Pitch 0.40mm, Thermal Pad 4.50x4.50mm, IPC High Density)
footprint QF48-M (QFN, 48-Leads, Body 6.00x6.00mm, Pitch 0.40mm, Thermal Pad 4.50x4.50mm, IPC Low Density)
part A pins: 41 RST_N (in), 42 CLK (in), 43 TMS (in), 44 TCK (in), 45 TDI (in), 46 TDO (out)
part B pins: 7 VDDIO (power), 8 VDD (power), 17 USB_VDD33 (power), 22 USB_VDD (power), 25 VDD (power), 31 VDDIO (power), 32 VDD (power), 38 VDD (power), 39 PLL_AVDD (power), 40 OTP_VCC (power), 49 GND (power)
part C pins: 1 X0D38 (io), 2 X0D39 (io), 3 X0D40 (io), 4 X0D41 (io), 5 X0D42 (io), 6 X0D43 (io), 9 X0D01 (io), 10 X0D10 (io), 11 X0D00 (io), 12 X0D04 (io), 13 X0D11 (io), 14 X0D05 (io), 15 X0D06 (io), 16 X0D07 (io), 23 X0D14 (io), 24 X0D15 (io), 27 X0D16 (io), 28 X0D17 (io), 29 X0D18 (io), 30 X0D19 (io), 33 X0D35 (io), 34 X0D26 (io), 35 X0D27 (io), 36 X0D28 (io), 37 X0D29 (io), 47 X0D37 (io), 48 X0D36 (io)
part D pins: 18 USB_VBUS, 19 USB_RTUNE, 20 USB_DP (io), 21 USB_DM (io)
part E pins: 26 NC
part A text: SYSTEM
part B text: POWER
part C text: IO TILE 0
part D text: USB

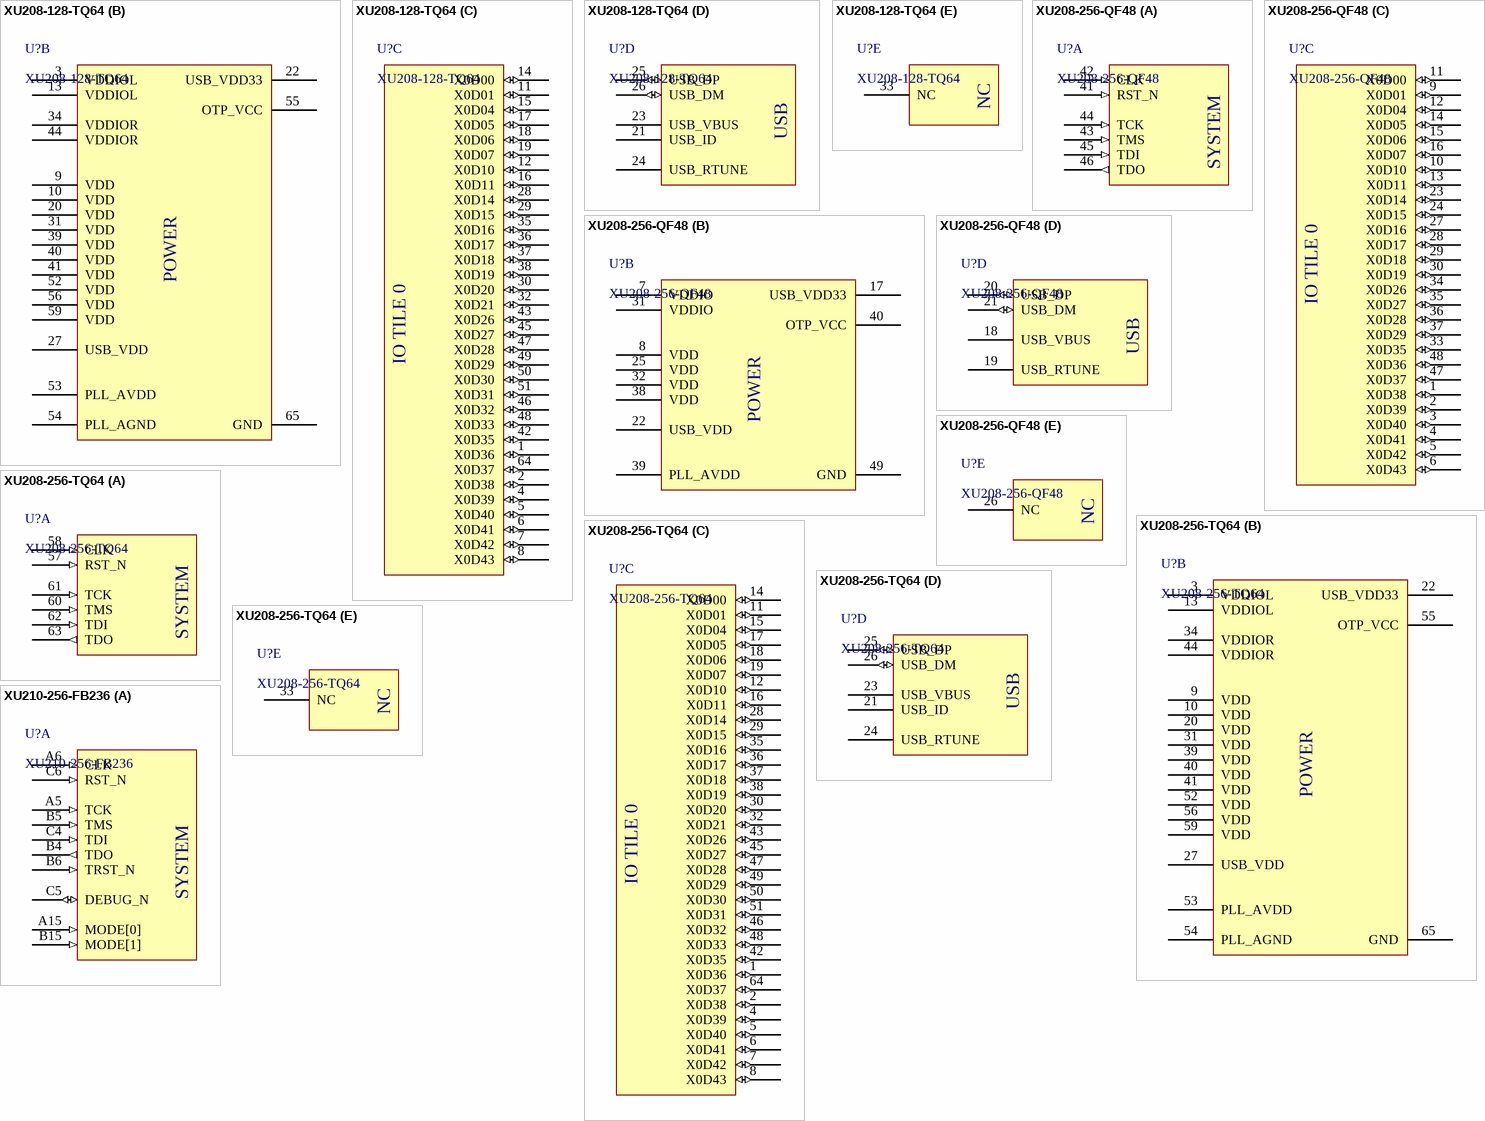
[diagram p4: symbols XU208-128-TQ64 to XU210-256-FB236]

## XU208-128-TQ64
designator U?
xCORE Multicore Microcontroller, xCORE-200, USB, Single Tile, 8 Cores, 500MHz, 64TQFP; Manufacturer: XMOS; Manufacturer Part Number: XU208-128-TQ64; Value: XU208-128-TQ64
footprint TQ64 (TSQFP, 64-Leads, Body 10.00x10.00mm, Pitch 0.50mm, Thermal Pad 5.48x5.48mm, IPC Medium Density)
footprint TQ64-L (TSQFP, 64-Leads, Body 10.00x10.00mm, Pitch 0.50mm, Thermal Pad 5.48x5.48mm, IPC High Density)
footprint TQ64-M (TSQFP, 64-Leads, Body 10.00x10.00mm, Pitch 0.50mm, Thermal Pad 5.48x5.48mm, IPC Low Density)
part A pins: 57 RST_N (in), 58 CLK (in), 60 TMS (in), 61 TCK (in), 62 TDI (in), 63 TDO (out)
part B pins: 3 VDDIOL (power), 9 VDD (power), 10 VDD (power), 13 VDDIOL (power), 20 VDD (power), 22 USB_VDD33 (power), 27 USB_VDD (power), 31 VDD (power), 34 VDDIOR (power), 39 VDD (power), 40 VDD (power), 41 VDD (power), 44 VDDIOR (power), 52 VDD (power), 53 PLL_AVDD (power), 54 PLL_AGND (power), 55 OTP_VCC (power), 56 VDD (power), 59 VDD (power), 65 GND (power)
part C pins: 1 X0D36 (io), 2 X0D38 (io), 4 X0D39 (io), 5 X0D40 (io), 6 X0D41 (io), 7 X0D42 (io), 8 X0D43 (io), 11 X0D01 (io), 12 X0D10 (io), 14 X0D00 (io), 15 X0D04 (io), 16 X0D11 (io), 17 X0D05 (io), 18 X0D06 (io), 19 X0D07 (io), 28 X0D14 (io), 29 X0D15 (io), 30 X0D20 (io), 32 X0D21 (io), 35 X0D16 (io), 36 X0D17 (io), 37 X0D18 (io), 38 X0D19 (io), 42 X0D35 (io), 43 X0D26 (io), 45 X0D27 (io), 46 X0D32 (io), 47 X0D28 (io), 48 X0D33 (io), 49 X0D29 (io), 50 X0D30 (io), 51 X0D31 (io), 64 X0D37 (io)
part D pins: 21 USB_ID, 23 USB_VBUS, 24 USB_RTUNE, 25 USB_DP (io), 26 USB_DM (io)
part E pins: 33 NC
part A text: SYSTEM
part B text: POWER
part C text: IO TILE 0
part D text: USB

## XU208-256-QF48
designator U?
xCORE Multicore Microcontroller, xCORE-200, USB, Single Tile, 8 Cores, 500MHz, 48QFN; Manufacturer: XMOS; Manufacturer Part Number: XU208-256-QF48; Value: XU208-256-QF48
footprint QF48 (QFN, 48-Leads, Body 6.00x6.00mm, Pitch 0.40mm, Thermal Pad 4.50x4.50mm, IPC Medium Density)
footprint QF48-L (QFN, 48-Leads, Body 6.00x6.00mm, Pitch 0.40mm, Thermal Pad 4.50x4.50mm, IPC High Density)
footprint QF48-M (QFN, 48-Leads, Body 6.00x6.00mm, Pitch 0.40mm, Thermal Pad 4.50x4.50mm, IPC Low Density)
part A pins: 41 RST_N (in), 42 CLK (in), 43 TMS (in), 44 TCK (in), 45 TDI (in), 46 TDO (out)
part B pins: 7 VDDIO (power), 8 VDD (power), 17 USB_VDD33 (power), 22 USB_VDD (power), 25 VDD (power), 31 VDDIO (power), 32 VDD (power), 38 VDD (power), 39 PLL_AVDD (power), 40 OTP_VCC (power), 49 GND (power)
part C pins: 1 X0D38 (io), 2 X0D39 (io), 3 X0D40 (io), 4 X0D41 (io), 5 X0D42 (io), 6 X0D43 (io), 9 X0D01 (io), 10 X0D10 (io), 11 X0D00 (io), 12 X0D04 (io), 13 X0D11 (io), 14 X0D05 (io), 15 X0D06 (io), 16 X0D07 (io), 23 X0D14 (io), 24 X0D15 (io), 27 X0D16 (io), 28 X0D17 (io), 29 X0D18 (io), 30 X0D19 (io), 33 X0D35 (io), 34 X0D26 (io), 35 X0D27 (io), 36 X0D28 (io), 37 X0D29 (io), 47 X0D37 (io), 48 X0D36 (io)
part D pins: 18 USB_VBUS, 19 USB_RTUNE, 20 USB_DP (io), 21 USB_DM (io)
part E pins: 26 NC
part A text: SYSTEM
part B text: POWER
part C text: IO TILE 0
part D text: USB

## XU208-256-TQ64
designator U?
xCORE Multicore Microcontroller, xCORE-200, USB, Single Tile, 8 Cores, 500MHz, 64TQFP; Manufacturer: XMOS; Manufacturer Part Number: XU208-256-TQ64; Value: XU208-256-TQ64
footprint TQ64 (TSQFP, 64-Leads, Body 10.00x10.00mm, Pitch 0.50mm, Thermal Pad 5.48x5.48mm, IPC Medium Density)
footprint TQ64-L (TSQFP, 64-Leads, Body 10.00x10.00mm, Pitch 0.50mm, Thermal Pad 5.48x5.48mm, IPC High Density)
footprint TQ64-M (TSQFP, 64-Leads, Body 10.00x10.00mm, Pitch 0.50mm, Thermal Pad 5.48x5.48mm, IPC Low Density)
part A pins: 57 RST_N (in), 58 CLK (in), 60 TMS (in), 61 TCK (in), 62 TDI (in), 63 TDO (out)
part B pins: 3 VDDIOL (power), 9 VDD (power), 10 VDD (power), 13 VDDIOL (power), 20 VDD (power), 22 USB_VDD33 (power), 27 USB_VDD (power), 31 VDD (power), 34 VDDIOR (power), 39 VDD (power), 40 VDD (power), 41 VDD (power), 44 VDDIOR (power), 52 VDD (power), 53 PLL_AVDD (power), 54 PLL_AGND (power), 55 OTP_VCC (power), 56 VDD (power), 59 VDD (power), 65 GND (power)
part C pins: 1 X0D36 (io), 2 X0D38 (io), 4 X0D39 (io), 5 X0D40 (io), 6 X0D41 (io), 7 X0D42 (io), 8 X0D43 (io), 11 X0D01 (io), 12 X0D10 (io), 14 X0D00 (io), 15 X0D04 (io), 16 X0D11 (io), 17 X0D05 (io), 18 X0D06 (io), 19 X0D07 (io), 28 X0D14 (io), 29 X0D15 (io), 30 X0D20 (io), 32 X0D21 (io), 35 X0D16 (io), 36 X0D17 (io), 37 X0D18 (io), 38 X0D19 (io), 42 X0D35 (io), 43 X0D26 (io), 45 X0D27 (io), 46 X0D32 (io), 47 X0D28 (io), 48 X0D33 (io), 49 X0D29 (io), 50 X0D30 (io), 51 X0D31 (io), 64 X0D37 (io)
part D pins: 21 USB_ID, 23 USB_VBUS, 24 USB_RTUNE, 25 USB_DP (io), 26 USB_DM (io)
part E pins: 33 NC
part A text: SYSTEM
part B text: POWER
part C text: IO TILE 0
part D text: USB

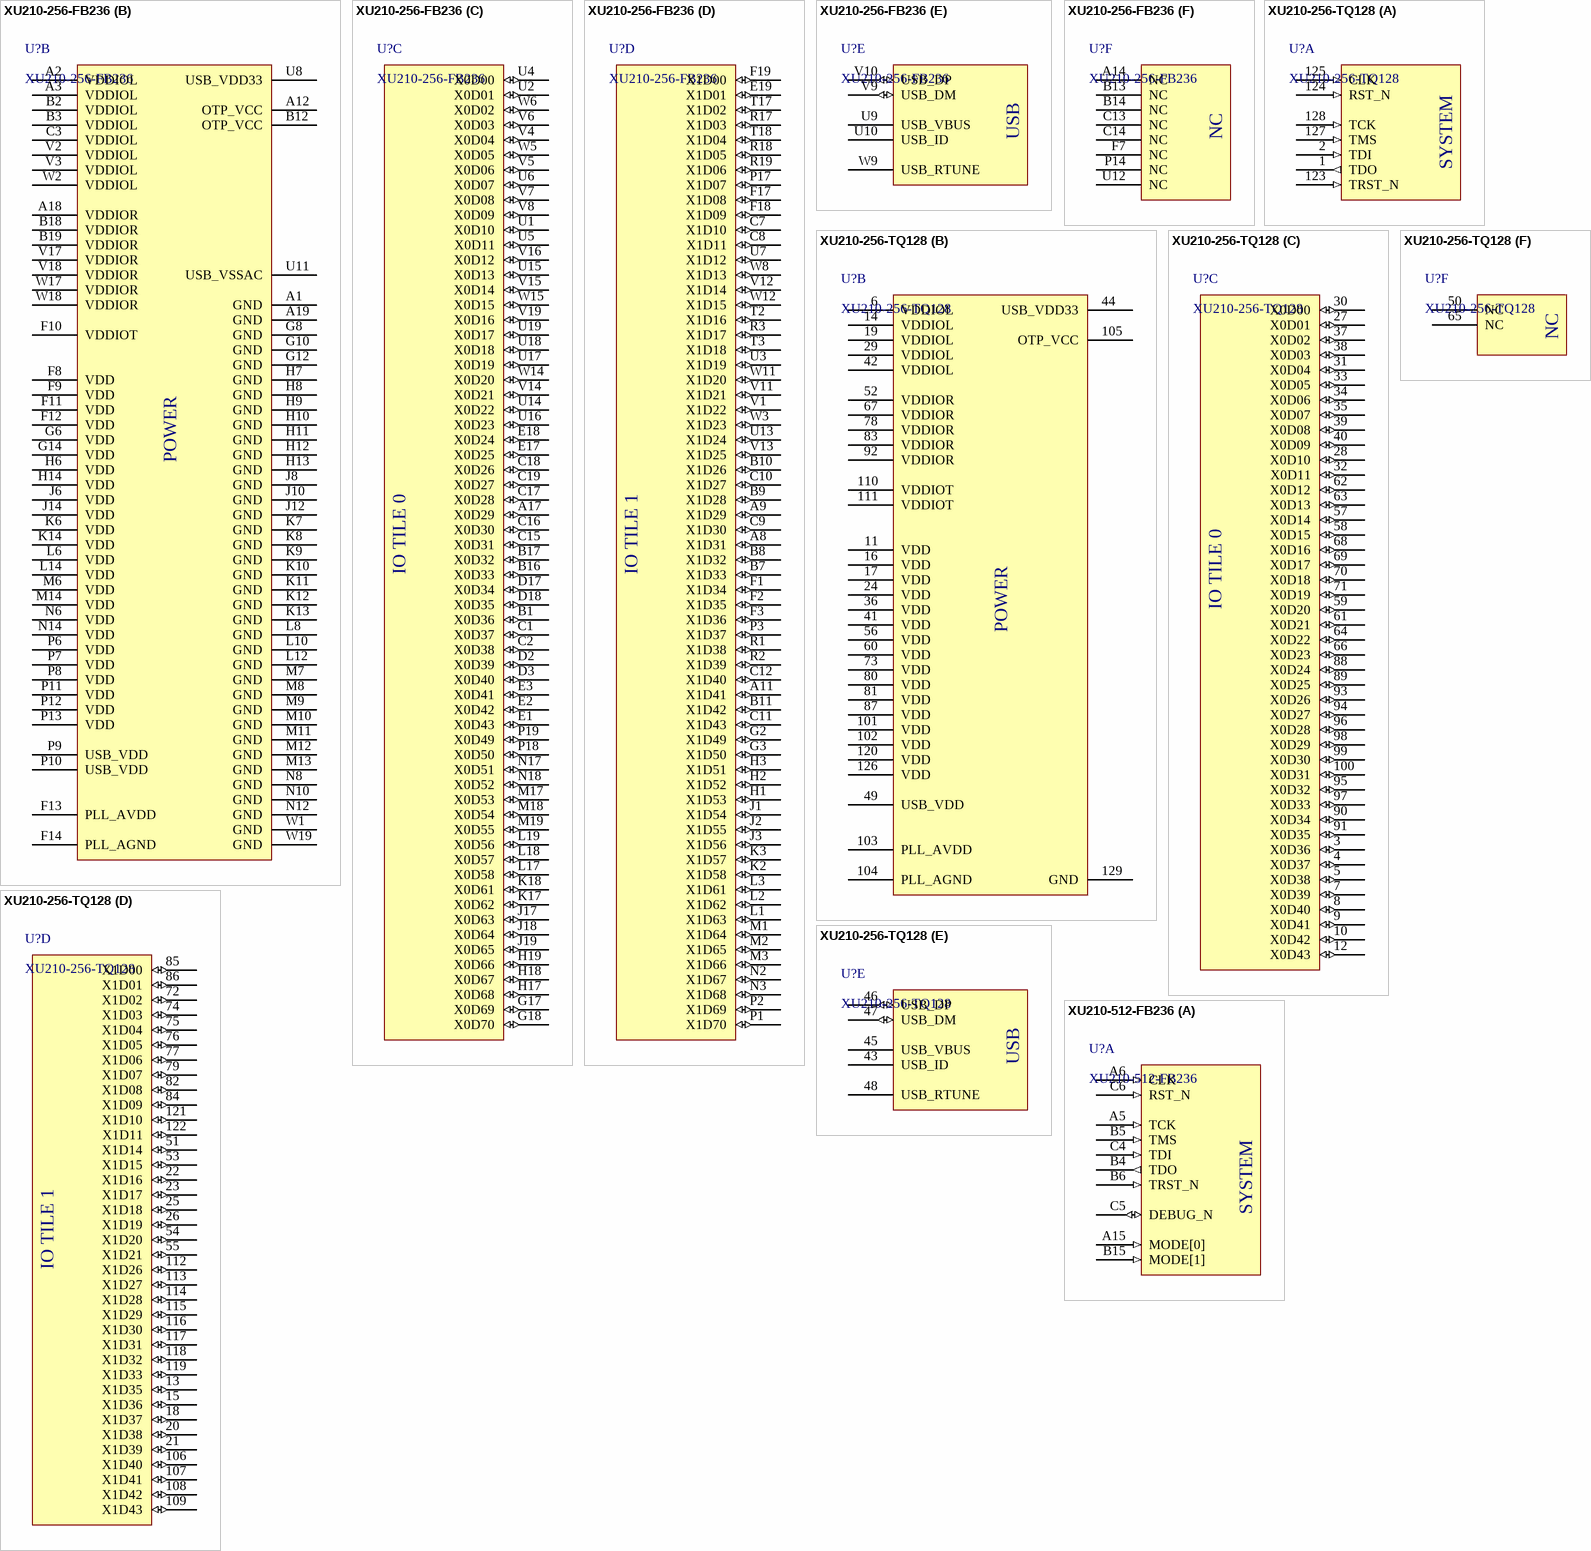
[diagram p5: symbols XU210-256-FB236 to XU210-512-FB236]

## XU210-256-FB236
designator U?
xCORE Multicore Microcontroller, xCORE-200, USB, Dual Tile, 10 Cores, 500MHz, 236BGA; Manufacturer: XMOS; Manufacturer Part Number: XU210-256-FB236; VALUE: XU210-256-FB236
footprint FB236 (BGA, 236-Leads, Body 10.00x10.00mmx1.28mm, Pitch 0.50mm)
part A pins: A5 TCK (in), A6 CLK (in), A15 MODE[0] (in), B4 TDO (out), B5 TMS (in), B6 TRST_N (in), B15 MODE[1] (in), C4 TDI (in), C5 DEBUG_N (io), C6 RST_N (in)
part B pins: A1 GND (power), A2 VDDIOL (power), A3 VDDIOL (power), A12 OTP_VCC (power), A18 VDDIOR (power), A19 GND (power), B2 VDDIOL (power), B3 VDDIOL (power), B12 OTP_VCC (power), B18 VDDIOR (power), B19 VDDIOR (power), C3 VDDIOL (power), F8 VDD (power), F9 VDD (power), F10 VDDIOT (power), F11 VDD (power), F12 VDD (power), F13 PLL_AVDD (power), F14 PLL_AGND (power), G6 VDD (power), G8 GND (power), G10 GND (power), G12 GND (power), G14 VDD (power), H6 VDD (power), H7 GND (power), H8 GND (power), H9 GND (power), H10 GND (power), H11 GND (power), H12 GND (power), H13 GND (power), H14 VDD (power), J6 VDD (power), J8 GND (power), J10 GND (power), J12 GND (power), J14 VDD (power), K6 VDD (power), K7 GND (power), K8 GND (power), K9 GND (power), K10 GND (power), K11 GND (power), K12 GND (power), K13 GND (power), K14 VDD (power), L6 VDD (power), L8 GND (power), L10 GND (power), L12 GND (power), L14 VDD (power), M6 VDD (power), M7 GND (power), M8 GND (power), M9 GND (power), M10 GND (power), M11 GND (power), M12 GND (power), M13 GND (power), M14 VDD (power), N6 VDD (power), N8 GND (power), N10 GND (power), N12 GND (power), N14 VDD (power), P6 VDD (power), P7 VDD (power), P8 VDD (power), P9 USB_VDD (power), P10 USB_VDD (power), P11 VDD (power), P12 VDD (power), P13 VDD (power), U8 USB_VDD33 (power), U11 USB_VSSAC (power), V2 VDDIOL (power), V3 VDDIOL (power), V17 VDDIOR (power), V18 VDDIOR (power), W1 GND (power), W2 VDDIOL (power), W17 VDDIOR (power), W18 VDDIOR (power), W19 GND (power)
part C pins: A17 X0D29 (io), B1 X0D36 (io), B16 X0D33 (io), B17 X0D32 (io), C1 X0D37 (io), C2 X0D38 (io), C15 X0D31 (io), C16 X0D30 (io), C17 X0D28 (io), C18 X0D26 (io), C19 X0D27 (io), D2 X0D39 (io), D3 X0D40 (io), D17 X0D34 (io), D18 X0D35 (io), E1 X0D43 (io), E2 X0D42 (io), E3 X0D41 (io), E17 X0D25 (io), E18 X0D24 (io), G17 X0D69 (io), G18 X0D70 (io), H17 X0D68 (io), H18 X0D67 (io), H19 X0D66 (io), J17 X0D63 (io), J18 X0D64 (io), J19 X0D65 (io), K17 X0D62 (io), K18 X0D61 (io), L17 X0D58 (io), L18 X0D57 (io), L19 X0D56 (io), M17 X0D53 (io), M18 X0D54 (io), M19 X0D55 (io), N17 X0D51 (io), N18 X0D52 (io), P18 X0D50 (io), P19 X0D49 (io), U1 X0D10 (io), U2 X0D01 (io), U4 X0D00 (io), U5 X0D11 (io), U6 X0D07 (io), U14 X0D22 (io), U15 X0D13 (io), U16 X0D23 (io), U17 X0D19 (io), U18 X0D18 (io), U19 X0D17 (io), V4 X0D04 (io), V5 X0D06 (io), V6 X0D03 (io), V7 X0D08 (io), V8 X0D09 (io), V14 X0D21 (io), V15 X0D14 (io), V16 X0D12 (io), V19 X0D16 (io), W5 X0D05 (io), W6 X0D02 (io), W14 X0D20 (io), W15 X0D15 (io)
part D pins: A8 X1D31 (io), A9 X1D29 (io), A11 X1D41 (io), B7 X1D33 (io), B8 X1D32 (io), B9 X1D28 (io), B10 X1D26 (io), B11 X1D42 (io), C7 X1D10 (io), C8 X1D11 (io), C9 X1D30 (io), C10 X1D27 (io), C11 X1D43 (io), C12 X1D40 (io), E19 X1D01 (io), F1 X1D34 (io), F2 X1D35 (io), F3 X1D36 (io), F17 X1D08 (io), F18 X1D09 (io), F19 X1D00 (io), G2 X1D49 (io), G3 X1D50 (io), H1 X1D53 (io), H2 X1D52 (io), H3 X1D51 (io), J1 X1D54 (io), J2 X1D55 (io), J3 X1D56 (io), K2 X1D58 (io), K3 X1D57 (io), L1 X1D63 (io), L2 X1D62 (io), L3 X1D61 (io), M1 X1D64 (io), M2 X1D65 (io), M3 X1D66 (io), N2 X1D67 (io), N3 X1D68 (io), P1 X1D70 (io), P2 X1D69 (io), P3 X1D37 (io), P17 X1D07 (io), R1 X1D38 (io), R2 X1D39 (io), R3 X1D17 (io), R17 X1D03 (io), R18 X1D05 (io), R19 X1D06 (io), T2 X1D16 (io), T3 X1D18 (io), T17 X1D02 (io), T18 X1D04 (io), U3 X1D19 (io), U7 X1D12 (io), U13 X1D24 (io), V1 X1D22 (io), V11 X1D21 (io), V12 X1D14 (io), V13 X1D25 (io), W3 X1D23 (io), W8 X1D13 (io), W11 X1D20 (io), W12 X1D15 (io)
part E pins: U9 USB_VBUS, U10 USB_ID, V9 USB_DM (io), V10 USB_DP (io), W9 USB_RTUNE
part F pins: A14 NC, B13 NC, B14 NC, C13 NC, C14 NC, F7 NC, P14 NC, U12 NC
part A text: SYSTEM
part B text: POWER
part C text: IO TILE 0
part D text: IO TILE 1
part E text: USB

## XU210-256-TQ128
designator U?
xCORE Multicore Microcontroller, xCORE-200, USB, Dual Tile, 10 Cores, 500MHz, 128TQFP; Manufacturer: XMOS; Manufacturer Part Number: XU210-256-TQ128; Value: XU210-256-TQ128
footprint TQ128 (TSQFP, 128-Leads, Body 14.00x14.00mm, Pitch 0.40mm, Thermal Pad 5.00x5.00mm, IPC Medium Density)
footprint TQ128-L (TSQFP, 128-Leads, Body 14.00x14.00mm, Pitch 0.40mm, Thermal Pad 5.00x5.00mm, IPC High Density)
footprint TQ128-M (TSQFP, 128-Leads, Body 14.00x14.00mm, Pitch 0.40mm, Thermal Pad 5.00x5.00mm, IPC Low Density)
part A pins: 1 TDO (out), 2 TDI (in), 123 TRST_N (in), 124 RST_N (in), 125 CLK (in), 127 TMS (in), 128 TCK (in)
part B pins: 6 VDDIOL (power), 11 VDD (power), 14 VDDIOL (power), 16 VDD (power), 17 VDD (power), 19 VDDIOL (power), 24 VDD (power), 29 VDDIOL (power), 36 VDD (power), 41 VDD (power), 42 VDDIOL (power), 44 USB_VDD33 (power), 49 USB_VDD (power), 52 VDDIOR (power), 56 VDD (power), 60 VDD (power), 67 VDDIOR (power), 73 VDD (power), 78 VDDIOR (power), 80 VDD (power), 81 VDD (power), 83 VDDIOR (power), 87 VDD (power), 92 VDDIOR (power), 101 VDD (power), 102 VDD (power), 103 PLL_AVDD (power), 104 PLL_AGND (power), 105 OTP_VCC (power), 110 VDDIOT (power), 111 VDDIOT (power), 120 VDD (power), 126 VDD (power), 129 GND (power)
part C pins: 3 X0D36 (io), 4 X0D37 (io), 5 X0D38 (io), 7 X0D39 (io), 8 X0D40 (io), 9 X0D41 (io), 10 X0D42 (io), 12 X0D43 (io), 27 X0D01 (io), 28 X0D10 (io), 30 X0D00 (io), 31 X0D04 (io), 32 X0D11 (io), 33 X0D05 (io), 34 X0D06 (io), 35 X0D07 (io), 37 X0D02 (io), 38 X0D03 (io), 39 X0D08 (io), 40 X0D09 (io), 57 X0D14 (io), 58 X0D15 (io), 59 X0D20 (io), 61 X0D21 (io), 62 X0D12 (io), 63 X0D13 (io), 64 X0D22 (io), 66 X0D23 (io), 68 X0D16 (io), 69 X0D17 (io), 70 X0D18 (io), 71 X0D19 (io), 88 X0D24 (io), 89 X0D25 (io), 90 X0D34 (io), 91 X0D35 (io), 93 X0D26 (io), 94 X0D27 (io), 95 X0D32 (io), 96 X0D28 (io), 97 X0D33 (io), 98 X0D29 (io), 99 X0D30 (io), 100 X0D31 (io)
part D pins: 13 X1D35 (io), 15 X1D36 (io), 18 X1D37 (io), 20 X1D38 (io), 21 X1D39 (io), 22 X1D16 (io), 23 X1D17 (io), 25 X1D18 (io), 26 X1D19 (io), 51 X1D14 (io), 53 X1D15 (io), 54 X1D20 (io), 55 X1D21 (io), 72 X1D02 (io), 74 X1D03 (io), 75 X1D04 (io), 76 X1D05 (io), 77 X1D06 (io), 79 X1D07 (io), 82 X1D08 (io), 84 X1D09 (io), 85 X1D00 (io), 86 X1D01 (io), 106 X1D40 (io), 107 X1D41 (io), 108 X1D42 (io), 109 X1D43 (io), 112 X1D26 (io), 113 X1D27 (io), 114 X1D28 (io), 115 X1D29 (io), 116 X1D30 (io), 117 X1D31 (io), 118 X1D32 (io), 119 X1D33 (io), 121 X1D10 (io), 122 X1D11 (io)
part E pins: 43 USB_ID, 45 USB_VBUS, 46 USB_DP (io), 47 USB_DM (io), 48 USB_RTUNE
part F pins: 50 NC, 65 NC
part A text: SYSTEM
part B text: POWER
part C text: IO TILE 0
part D text: IO TILE 1
part E text: USB

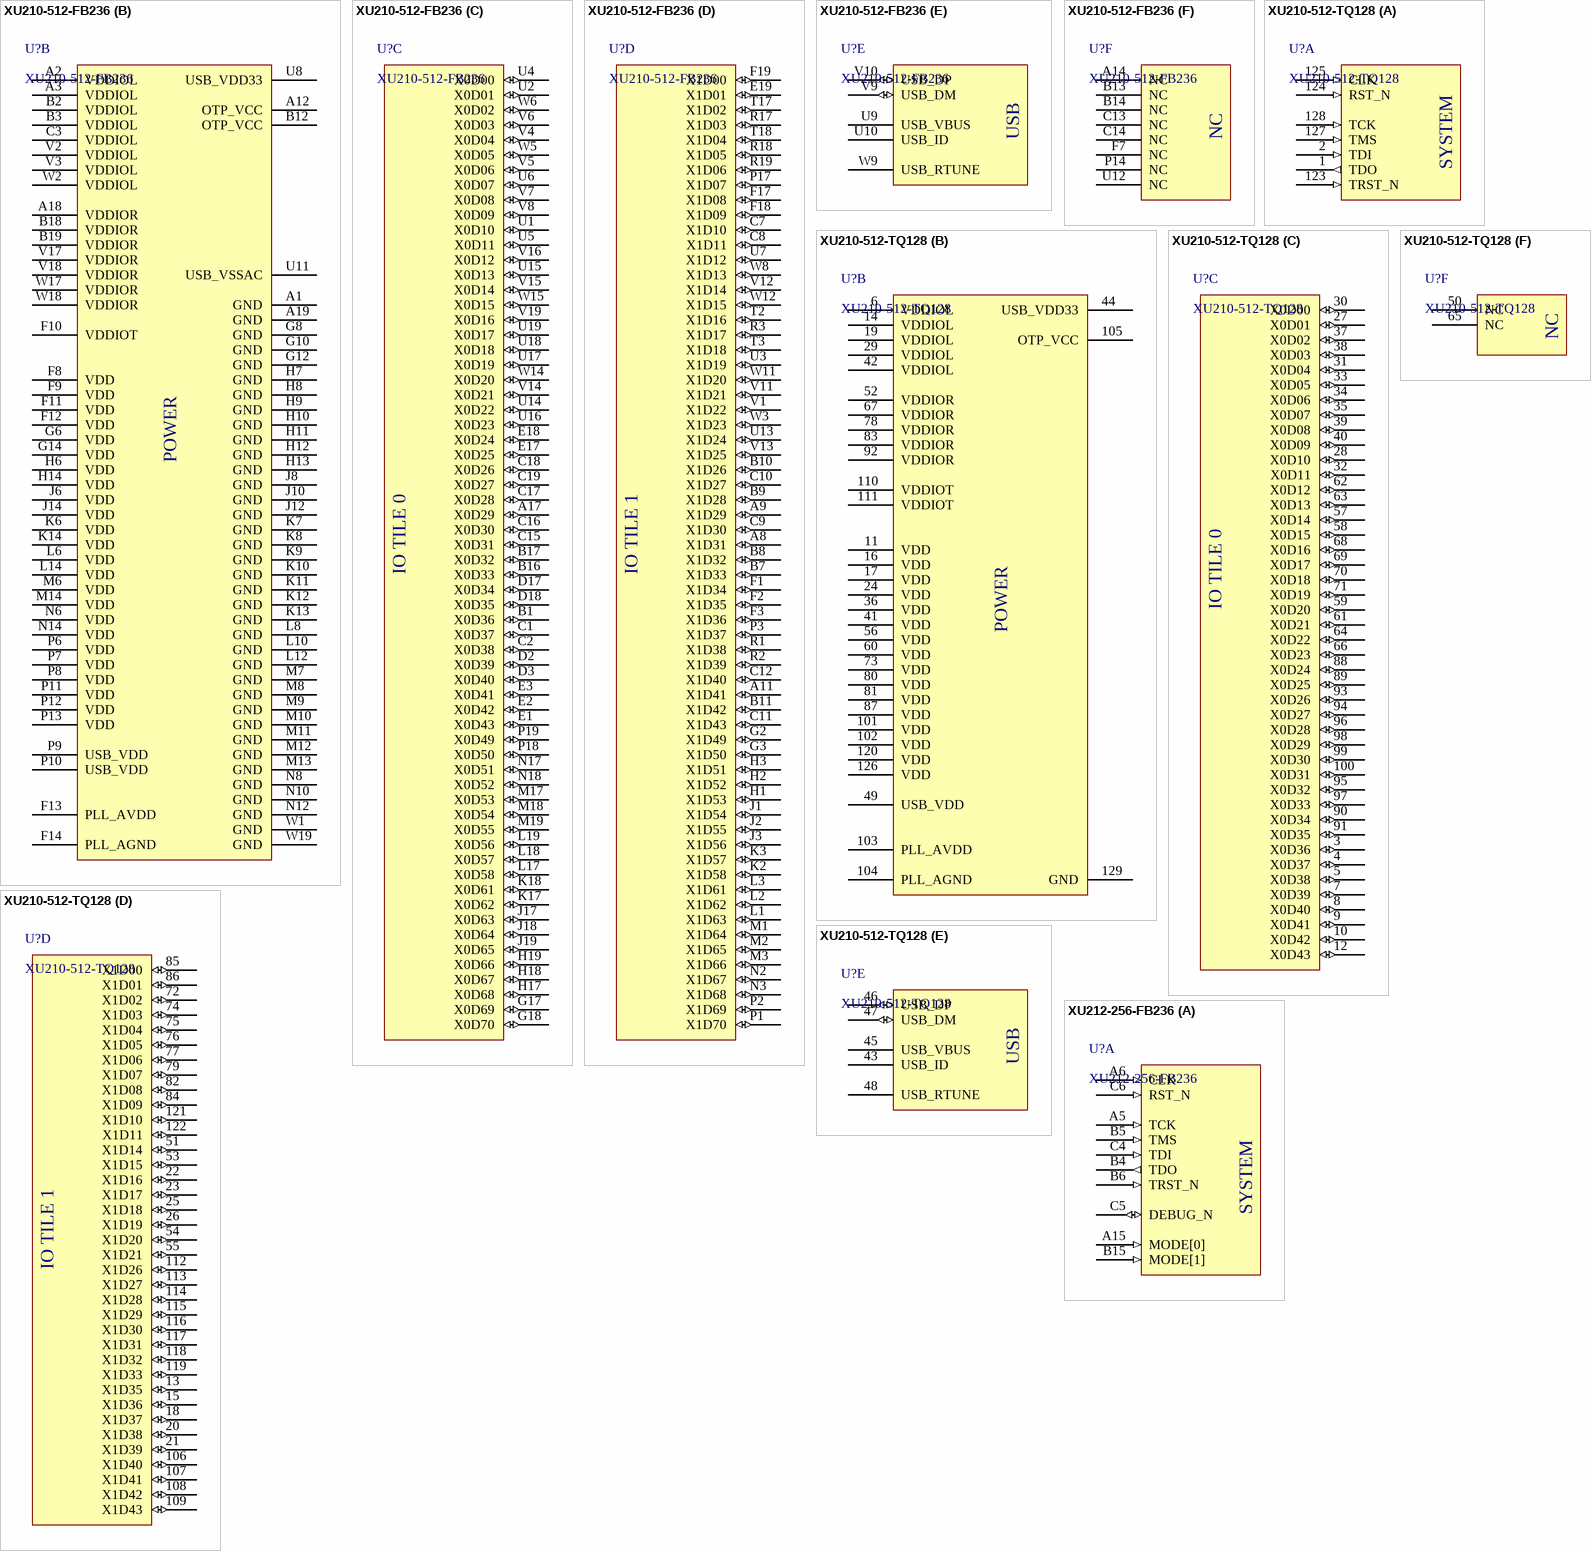
[diagram p6: symbols XU210-512-FB236 to XU212-256-FB236]

## XU210-512-FB236
designator U?
xCORE Multicore Microcontroller, xCORE-200, USB, Dual Tile, 10 Cores, 500MHz, 236BGA; Manufacturer: XMOS; Manufacturer Part Number: XU210-512-FB236; VALUE: XU210-512-FB236
footprint FB236 (BGA, 236-Leads, Body 10.00x10.00mmx1.28mm, Pitch 0.50mm)
part A pins: A5 TCK (in), A6 CLK (in), A15 MODE[0] (in), B4 TDO (out), B5 TMS (in), B6 TRST_N (in), B15 MODE[1] (in), C4 TDI (in), C5 DEBUG_N (io), C6 RST_N (in)
part B pins: A1 GND (power), A2 VDDIOL (power), A3 VDDIOL (power), A12 OTP_VCC (power), A18 VDDIOR (power), A19 GND (power), B2 VDDIOL (power), B3 VDDIOL (power), B12 OTP_VCC (power), B18 VDDIOR (power), B19 VDDIOR (power), C3 VDDIOL (power), F8 VDD (power), F9 VDD (power), F10 VDDIOT (power), F11 VDD (power), F12 VDD (power), F13 PLL_AVDD (power), F14 PLL_AGND (power), G6 VDD (power), G8 GND (power), G10 GND (power), G12 GND (power), G14 VDD (power), H6 VDD (power), H7 GND (power), H8 GND (power), H9 GND (power), H10 GND (power), H11 GND (power), H12 GND (power), H13 GND (power), H14 VDD (power), J6 VDD (power), J8 GND (power), J10 GND (power), J12 GND (power), J14 VDD (power), K6 VDD (power), K7 GND (power), K8 GND (power), K9 GND (power), K10 GND (power), K11 GND (power), K12 GND (power), K13 GND (power), K14 VDD (power), L6 VDD (power), L8 GND (power), L10 GND (power), L12 GND (power), L14 VDD (power), M6 VDD (power), M7 GND (power), M8 GND (power), M9 GND (power), M10 GND (power), M11 GND (power), M12 GND (power), M13 GND (power), M14 VDD (power), N6 VDD (power), N8 GND (power), N10 GND (power), N12 GND (power), N14 VDD (power), P6 VDD (power), P7 VDD (power), P8 VDD (power), P9 USB_VDD (power), P10 USB_VDD (power), P11 VDD (power), P12 VDD (power), P13 VDD (power), U8 USB_VDD33 (power), U11 USB_VSSAC (power), V2 VDDIOL (power), V3 VDDIOL (power), V17 VDDIOR (power), V18 VDDIOR (power), W1 GND (power), W2 VDDIOL (power), W17 VDDIOR (power), W18 VDDIOR (power), W19 GND (power)
part C pins: A17 X0D29 (io), B1 X0D36 (io), B16 X0D33 (io), B17 X0D32 (io), C1 X0D37 (io), C2 X0D38 (io), C15 X0D31 (io), C16 X0D30 (io), C17 X0D28 (io), C18 X0D26 (io), C19 X0D27 (io), D2 X0D39 (io), D3 X0D40 (io), D17 X0D34 (io), D18 X0D35 (io), E1 X0D43 (io), E2 X0D42 (io), E3 X0D41 (io), E17 X0D25 (io), E18 X0D24 (io), G17 X0D69 (io), G18 X0D70 (io), H17 X0D68 (io), H18 X0D67 (io), H19 X0D66 (io), J17 X0D63 (io), J18 X0D64 (io), J19 X0D65 (io), K17 X0D62 (io), K18 X0D61 (io), L17 X0D58 (io), L18 X0D57 (io), L19 X0D56 (io), M17 X0D53 (io), M18 X0D54 (io), M19 X0D55 (io), N17 X0D51 (io), N18 X0D52 (io), P18 X0D50 (io), P19 X0D49 (io), U1 X0D10 (io), U2 X0D01 (io), U4 X0D00 (io), U5 X0D11 (io), U6 X0D07 (io), U14 X0D22 (io), U15 X0D13 (io), U16 X0D23 (io), U17 X0D19 (io), U18 X0D18 (io), U19 X0D17 (io), V4 X0D04 (io), V5 X0D06 (io), V6 X0D03 (io), V7 X0D08 (io), V8 X0D09 (io), V14 X0D21 (io), V15 X0D14 (io), V16 X0D12 (io), V19 X0D16 (io), W5 X0D05 (io), W6 X0D02 (io), W14 X0D20 (io), W15 X0D15 (io)
part D pins: A8 X1D31 (io), A9 X1D29 (io), A11 X1D41 (io), B7 X1D33 (io), B8 X1D32 (io), B9 X1D28 (io), B10 X1D26 (io), B11 X1D42 (io), C7 X1D10 (io), C8 X1D11 (io), C9 X1D30 (io), C10 X1D27 (io), C11 X1D43 (io), C12 X1D40 (io), E19 X1D01 (io), F1 X1D34 (io), F2 X1D35 (io), F3 X1D36 (io), F17 X1D08 (io), F18 X1D09 (io), F19 X1D00 (io), G2 X1D49 (io), G3 X1D50 (io), H1 X1D53 (io), H2 X1D52 (io), H3 X1D51 (io), J1 X1D54 (io), J2 X1D55 (io), J3 X1D56 (io), K2 X1D58 (io), K3 X1D57 (io), L1 X1D63 (io), L2 X1D62 (io), L3 X1D61 (io), M1 X1D64 (io), M2 X1D65 (io), M3 X1D66 (io), N2 X1D67 (io), N3 X1D68 (io), P1 X1D70 (io), P2 X1D69 (io), P3 X1D37 (io), P17 X1D07 (io), R1 X1D38 (io), R2 X1D39 (io), R3 X1D17 (io), R17 X1D03 (io), R18 X1D05 (io), R19 X1D06 (io), T2 X1D16 (io), T3 X1D18 (io), T17 X1D02 (io), T18 X1D04 (io), U3 X1D19 (io), U7 X1D12 (io), U13 X1D24 (io), V1 X1D22 (io), V11 X1D21 (io), V12 X1D14 (io), V13 X1D25 (io), W3 X1D23 (io), W8 X1D13 (io), W11 X1D20 (io), W12 X1D15 (io)
part E pins: U9 USB_VBUS, U10 USB_ID, V9 USB_DM (io), V10 USB_DP (io), W9 USB_RTUNE
part F pins: A14 NC, B13 NC, B14 NC, C13 NC, C14 NC, F7 NC, P14 NC, U12 NC
part A text: SYSTEM
part B text: POWER
part C text: IO TILE 0
part D text: IO TILE 1
part E text: USB

## XU210-512-TQ128
designator U?
xCORE Multicore Microcontroller, xCORE-200, USB, Dual Tile, 10 Cores, 500MHz, 128TQFP; Manufacturer: XMOS; Manufacturer Part Number: XU210-512-TQ128; Value: XU210-512-TQ128
footprint TQ128 (TSQFP, 128-Leads, Body 14.00x14.00mm, Pitch 0.40mm, Thermal Pad 5.00x5.00mm, IPC Medium Density)
footprint TQ128-L (TSQFP, 128-Leads, Body 14.00x14.00mm, Pitch 0.40mm, Thermal Pad 5.00x5.00mm, IPC High Density)
footprint TQ128-M (TSQFP, 128-Leads, Body 14.00x14.00mm, Pitch 0.40mm, Thermal Pad 5.00x5.00mm, IPC Low Density)
part A pins: 1 TDO (out), 2 TDI (in), 123 TRST_N (in), 124 RST_N (in), 125 CLK (in), 127 TMS (in), 128 TCK (in)
part B pins: 6 VDDIOL (power), 11 VDD (power), 14 VDDIOL (power), 16 VDD (power), 17 VDD (power), 19 VDDIOL (power), 24 VDD (power), 29 VDDIOL (power), 36 VDD (power), 41 VDD (power), 42 VDDIOL (power), 44 USB_VDD33 (power), 49 USB_VDD (power), 52 VDDIOR (power), 56 VDD (power), 60 VDD (power), 67 VDDIOR (power), 73 VDD (power), 78 VDDIOR (power), 80 VDD (power), 81 VDD (power), 83 VDDIOR (power), 87 VDD (power), 92 VDDIOR (power), 101 VDD (power), 102 VDD (power), 103 PLL_AVDD (power), 104 PLL_AGND (power), 105 OTP_VCC (power), 110 VDDIOT (power), 111 VDDIOT (power), 120 VDD (power), 126 VDD (power), 129 GND (power)
part C pins: 3 X0D36 (io), 4 X0D37 (io), 5 X0D38 (io), 7 X0D39 (io), 8 X0D40 (io), 9 X0D41 (io), 10 X0D42 (io), 12 X0D43 (io), 27 X0D01 (io), 28 X0D10 (io), 30 X0D00 (io), 31 X0D04 (io), 32 X0D11 (io), 33 X0D05 (io), 34 X0D06 (io), 35 X0D07 (io), 37 X0D02 (io), 38 X0D03 (io), 39 X0D08 (io), 40 X0D09 (io), 57 X0D14 (io), 58 X0D15 (io), 59 X0D20 (io), 61 X0D21 (io), 62 X0D12 (io), 63 X0D13 (io), 64 X0D22 (io), 66 X0D23 (io), 68 X0D16 (io), 69 X0D17 (io), 70 X0D18 (io), 71 X0D19 (io), 88 X0D24 (io), 89 X0D25 (io), 90 X0D34 (io), 91 X0D35 (io), 93 X0D26 (io), 94 X0D27 (io), 95 X0D32 (io), 96 X0D28 (io), 97 X0D33 (io), 98 X0D29 (io), 99 X0D30 (io), 100 X0D31 (io)
part D pins: 13 X1D35 (io), 15 X1D36 (io), 18 X1D37 (io), 20 X1D38 (io), 21 X1D39 (io), 22 X1D16 (io), 23 X1D17 (io), 25 X1D18 (io), 26 X1D19 (io), 51 X1D14 (io), 53 X1D15 (io), 54 X1D20 (io), 55 X1D21 (io), 72 X1D02 (io), 74 X1D03 (io), 75 X1D04 (io), 76 X1D05 (io), 77 X1D06 (io), 79 X1D07 (io), 82 X1D08 (io), 84 X1D09 (io), 85 X1D00 (io), 86 X1D01 (io), 106 X1D40 (io), 107 X1D41 (io), 108 X1D42 (io), 109 X1D43 (io), 112 X1D26 (io), 113 X1D27 (io), 114 X1D28 (io), 115 X1D29 (io), 116 X1D30 (io), 117 X1D31 (io), 118 X1D32 (io), 119 X1D33 (io), 121 X1D10 (io), 122 X1D11 (io)
part E pins: 43 USB_ID, 45 USB_VBUS, 46 USB_DP (io), 47 USB_DM (io), 48 USB_RTUNE
part F pins: 50 NC, 65 NC
part A text: SYSTEM
part B text: POWER
part C text: IO TILE 0
part D text: IO TILE 1
part E text: USB

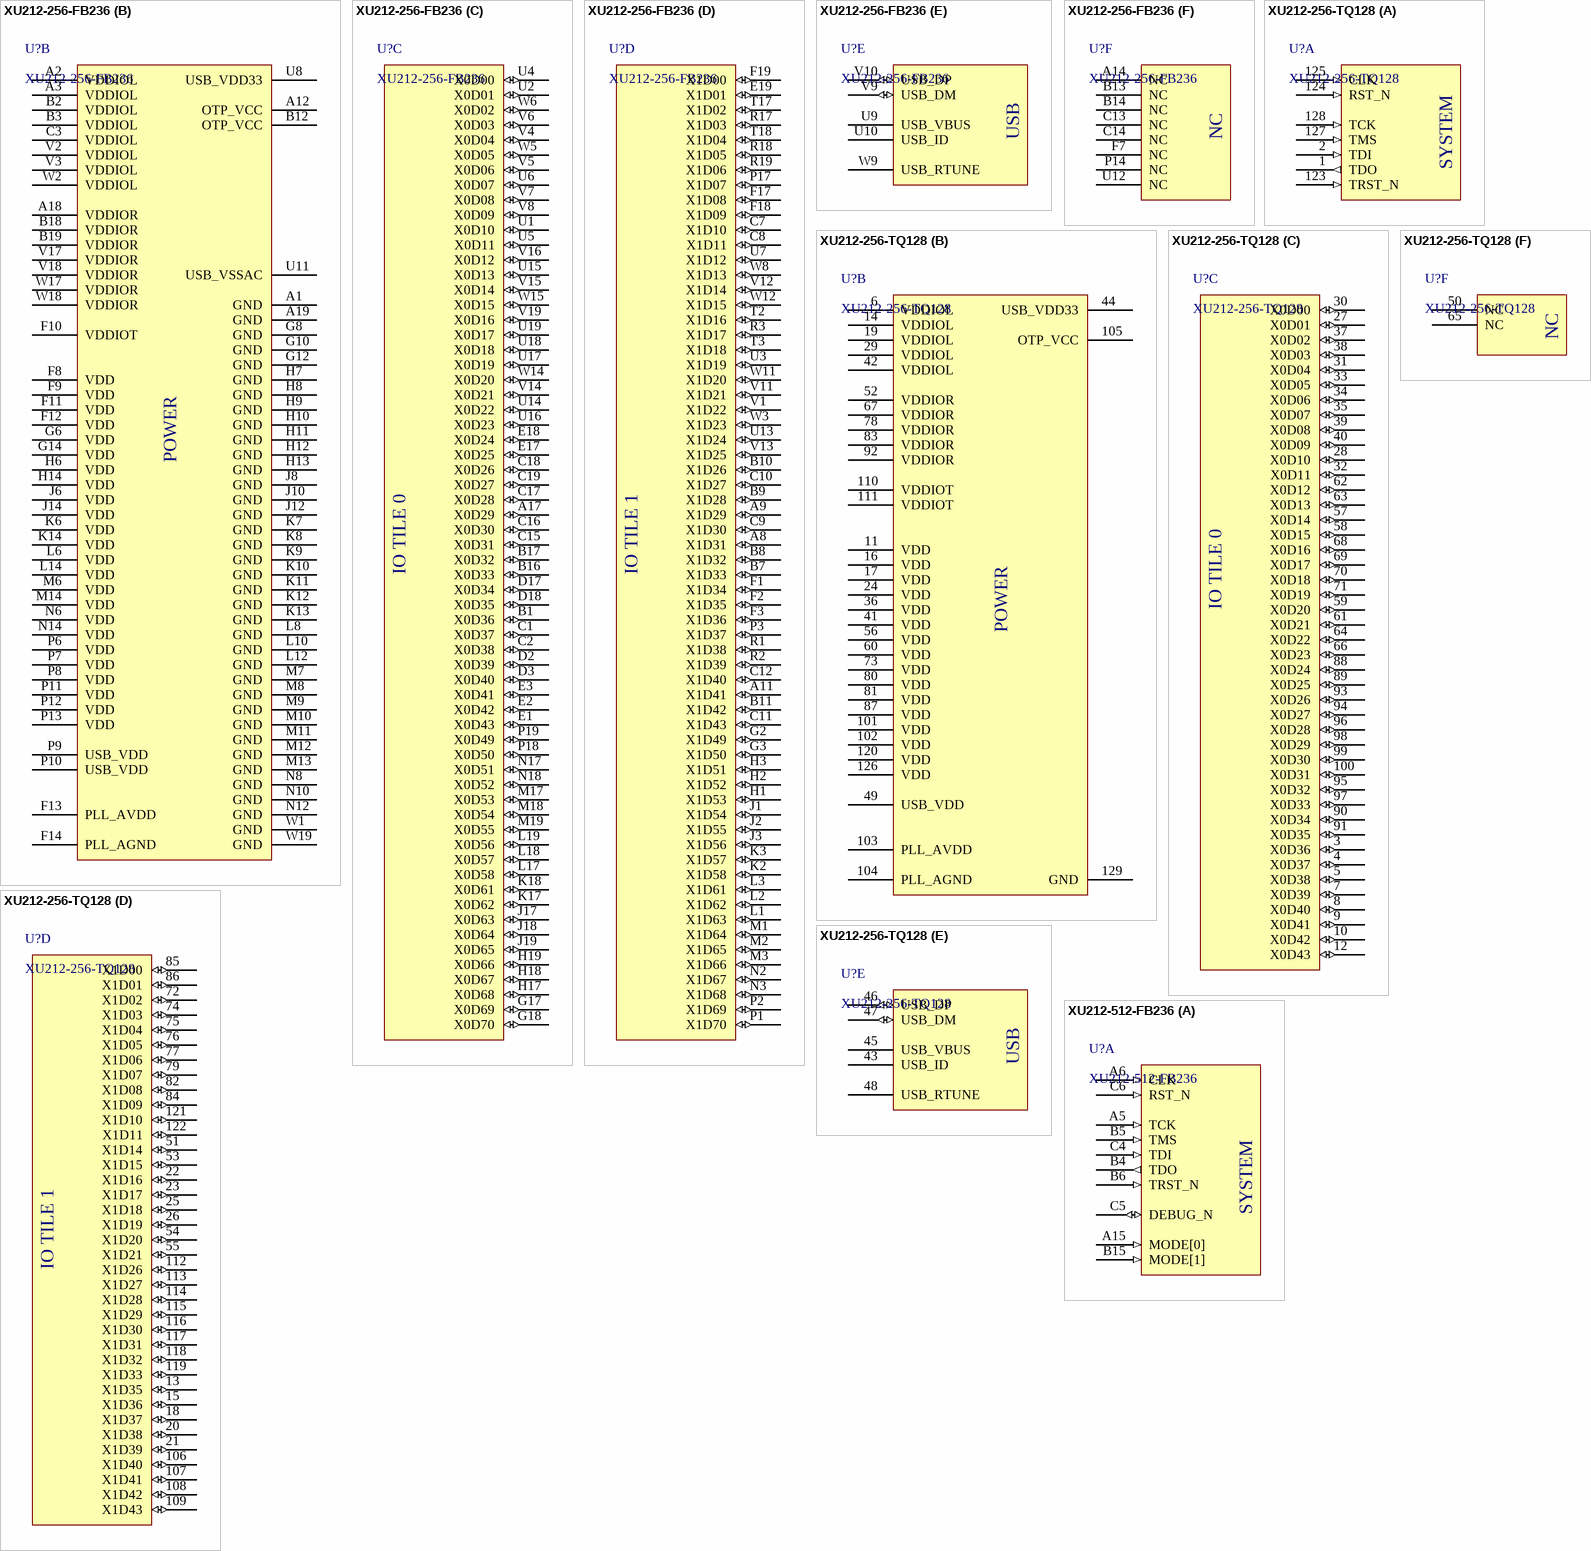
[diagram p7: symbols XU212-256-FB236 to XU212-512-FB236]